# Altium schematic symbol library H3_REF_DDR3_16X2_V1_0_Library.SchLib: 148 symbols (part 2 of 2)
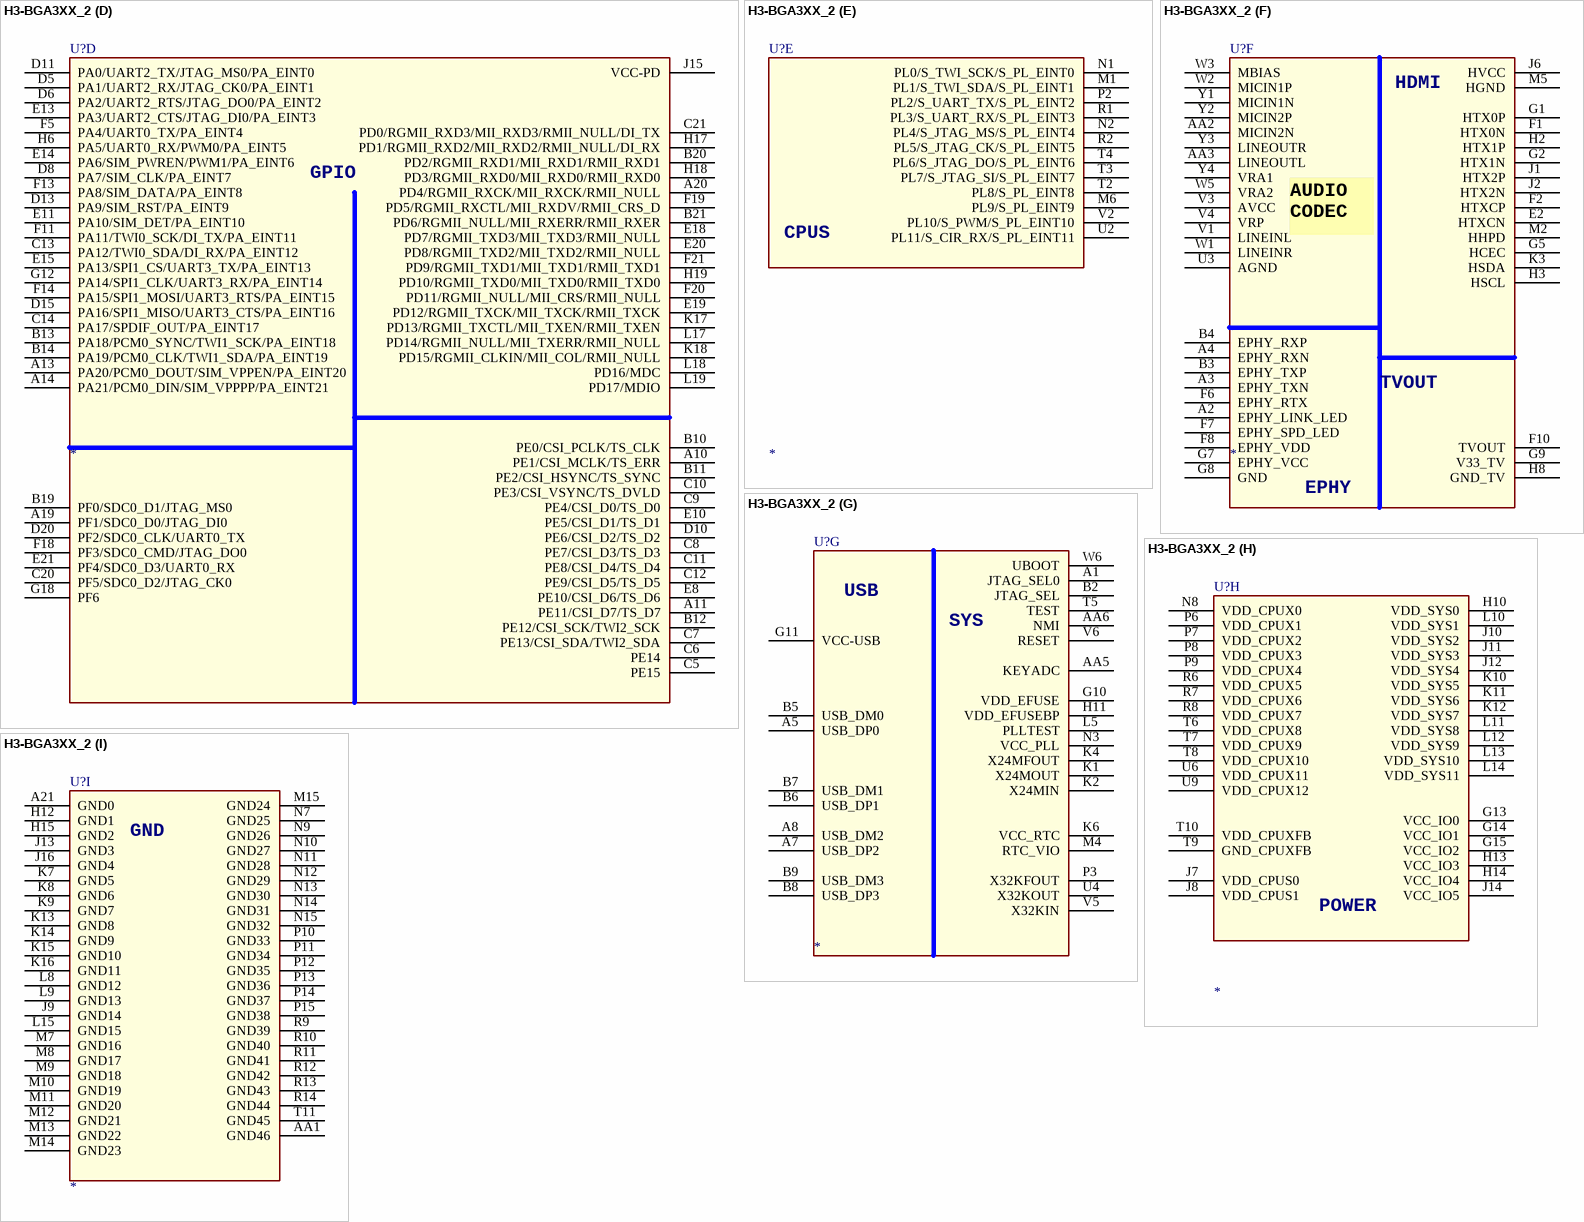
[diagram p24: symbol H3-BGA3XX_2]

## H3-BGA3XX_2
designator U?
footprint BGA347P0_65B14X14
part A pins: AA8 SDQ29, AA9 SDQS3, AA11 SDQ25, AA12 SDQM3, AA14 SDQ21, AA15 SDQS2, AA17 SDQ17, AA18 SDQM2, AA19 SCK, AA20 SCKB, AA21 SCKE0, G20 SDQM1, H20 SDQ9, H21 SDQ10, J19 SDQ8, J20 SDQSB1, J21 SDQ11, K20 SDQS1, L16 VCC_DRAM0, L20 SDQ12, L21 SDQ13, M16 VCC_DRAM1, M19 SDQ15, M20 SDQM0, M21 SDQ14, N16 VCC_DRAM2, N17 SA14, N19 SA11, N20 SDQ0, P16 VCC_DRAM3, P17 VCC_DRAM4, P19 SA10, P20 SDQ2, P21 SDQ1, R16 VCC_DRAM5, R17 SA15, R18 SA12, R19 SDQ4, R20 SDQS0, R21 SDQSB0, T12 VCC_DRAM6, T13 VCC_DRAM7, T14 VCC_DRAM8, T15 VCC_DRAM9, T16 SVREF, T17 SA0, T18 SBA1, T20 SDQ5, U11 VCC_DRAM10, U15 SCAS, U16 SRST, U18 SA1, U19 SDQ6, U20 SDQ7, U21 SDQ3, V10 SZQ, V11 SODT1, V12 SA13, V13 SRAS, V15 SA7, V17 SBA2, V19 SA2, V20 SA3, V21 SA4, W9 SDQ28, W11 SODT0, W12 SDQ24, W13 SWE, W15 SDQ19, W17 SBA0, W18 SA8, W20 SCS0, W21 SCS1, Y7 SDQ31, Y8 SDQ30, Y9 SDQSB3, Y10 SDQ27, Y11 SDQ26, Y12 SDQ23, Y13 SDQ22, Y14 SDQ20, Y15 SDQSB2, Y16 SDQ18, Y17 SDQ16, Y18 SA9, Y19 SA5, Y20 SA6, Y21 SCKE1
part B pins: A16 PC7/NAND_RB1, A17 PC5/NAND_RE/SDC2_CLK, B15 PC3/NAND_CE1/SPI0_CS, B16 PC2/NAND_CLE/SPI0_CLK, B17 PC12/NAND_DQ4/SDC2_D4, B18 PC8/NAND_DQ0/SDC2_D0, C15 PC0/NAND_WE/SPI0_MOSI, C16 PC1/NAND_ALE/SPI0_MISO, C17 PC9/NAND_DQ1/SDC2_D1, C18 PC11/NAND_DQ3/SDC2_D3, C19 PC15/NAND_DQ7/SDC2_D7, D17 PC10/NAND_DQ2/SDC2_D2, D19 PC13/NAND_DQ5/SDC2_D5, E16 PC6/NAND_RB0/SDC2_CMD, F16 PC4/NAND_CE0, F17 PC14/NAND_DQ6/SDC2_D6, H16 PC16/NAND_DQS/SDC2_RST
part C pins: B1 PG13/PCM1_DIN/PG_EINT13, C1 PG5/SDC1_D3/PG_EINT5, C2 PG4/SDC1_D2/PG_EINT4, C3 PG8/UART1_RTS/PG_EINT8, D1 PG12/PCM1_DOUTPG_EINT12, D2 PG11/PCM1_CLK/PG_EINT11, D3 PG7/UART1_RX/PG_EINT7, E3 PG9/UART1_CTS/PG_EINT9, F3 PG3/SDC1_D1/PG_EINT3, G4 PG6/UART1_TX/PG_EINT6, H4 PG2/SDC1_D0/PG_EINT2, H7 VCC_PG, J3 PG0/SDC1_CLK/PG_EINT0, L2 PG1/SDC1_CMD/PG_EINT1, M3 PG10/PCM1_SYNC/PG_EINT10
part D pins: A10 PE1/CSI_MCLK/TS_ERR, A11 PE11/CSI_D7/TS_D7, A13 PA20/PCM0_DOUT/SIM_VPPEN/PA_EINT20, A14 PA21/PCM0_DIN/SIM_VPPPP/PA_EINT21, A19 PF1/SDC0_D0/JTAG_DI0, A20 PD4/RGMII_RXCK/MII_RXCK/RMII_NULL, B10 PE0/CSI_PCLK/TS_CLK, B11 PE2/CSI_HSYNC/TS_SYNC, B12 PE12/CSI_SCK/TWI2_SCK, B13 PA18/PCM0_SYNC/TWI1_SCK/PA_EINT18, B14 PA19/PCM0_CLK/TWI1_SDA/PA_EINT19, B19 PF0/SDC0_D1/JTAG_MS0, B20 PD2/RGMII_RXD1/MII_RXD1/RMII_RXD1, B21 PD6/RGMII_NULL/MII_RXERR/RMII_RXER, C5 PE15, C6 PE14, C7 PE13/CSI_SDA/TWI2_SDA, C8 PE7/CSI_D3/TS_D3, C9 PE4/CSI_D0/TS_D0, C10 PE3/CSI_VSYNC/TS_DVLD, C11 PE8/CSI_D4/TS_D4, C12 PE9/CSI_D5/TS_D5, C13 PA12/TWI0_SDA/DI_RX/PA_EINT12, C14 PA17/SPDIF_OUT/PA_EINT17, C20 PF5/SDC0_D2/JTAG_CK0, C21 PD0/RGMII_RXD3/MII_RXD3/RMII_NULL/DI_TX, D5 PA1/UART2_RX/JTAG_CK0/PA_EINT1, D6 PA2/UART2_RTS/JTAG_DO0/PA_EINT2, D8 PA7/SIM_CLK/PA_EINT7, D10 PE6/CSI_D2/TS_D2, D11 PA0/UART2_TX/JTAG_MS0/PA_EINT0, D13 PA9/SIM_RST/PA_EINT9, D15 PA16/SPI1_MISO/UART3_CTS/PA_EINT16, D20 PF2/SDC0_CLK/UART0_TX, E8 PE10/CSI_D6/TS_D6, E10 PE5/CSI_D1/TS_D1, E11 PA10/SIM_DET/PA_EINT10, E13 PA3/UART2_CTS/JTAG_DI0/PA_EINT3, E14 PA6/SIM_PWREN/PWM1/PA_EINT6, E15 PA13/SPI1_CS/UART3_TX/PA_EINT13, E18 PD7/RGMII_TXD3/MII_TXD3/RMII_NULL, E19 PD12/RGMII_TXCK/MII_TXCK/RMII_TXCK, E20 PD8/RGMII_TXD2/MII_TXD2/RMII_NULL, E21 PF4/SDC0_D3/UART0_RX, F5 PA4/UART0_TX/PA_EINT4, F11 PA11/TWI0_SCK/DI_TX/PA_EINT11, F13 PA8/SIM_DATA/PA_EINT8, F14 PA15/SPI1_MOSI/UART3_RTS/PA_EINT15, F18 PF3/SDC0_CMD/JTAG_DO0, F19 PD5/RGMII_RXCTL/MII_RXDV/RMII_CRS_D, F20 PD11/RGMII_NULL/MII_CRS/RMII_NULL, F21 PD9/RGMII_TXD1/MII_TXD1/RMII_TXD1, G12 PA14/SPI1_CLK/UART3_RX/PA_EINT14, G18 PF6, H6 PA5/UART0_RX/PWM0/PA_EINT5, H17 PD1/RGMII_RXD2/MII_RXD2/RMII_NULL/DI_RX, H18 PD3/RGMII_RXD0/MII_RXD0/RMII_RXD0, H19 PD10/RGMII_TXD0/MII_TXD0/RMII_TXD0, J15 VCC-PD, K17 PD13/RGMII_TXCTL/MII_TXEN/RMII_TXEN, K18 PD15/RGMII_CLKIN/MII_COL/RMII_NULL, L17 PD14/RGMII_NULL/MII_TXERR/RMII_NULL, L18 PD16/MDC, L19 PD17/MDIO
part E pins: M1 PL1/S_TWI_SDA/S_PL_EINT1, M6 PL9/S_PL_EINT9, N1 PL0/S_TWI_SCK/S_PL_EINT0, N2 PL4/S_JTAG_MS/S_PL_EINT4, P2 PL2/S_UART_TX/S_PL_EINT2, R1 PL3/S_UART_RX/S_PL_EINT3, R2 PL5/S_JTAG_CK/S_PL_EINT5, T2 PL8/S_PL_EINT8, T3 PL7/S_JTAG_SI/S_PL_EINT7, T4 PL6/S_JTAG_DO/S_PL_EINT6, U2 PL11/S_CIR_RX/S_PL_EINT11, V2 PL10/S_PWM/S_PL_EINT10
part F pins: A2 EPHY_LINK_LED, A3 EPHY_TXN, A4 EPHY_RXN, AA2 MICIN2N, AA3 LINEOUTL, B3 EPHY_TXP, B4 EPHY_RXP, E2 HTXCN, F1 HTX0N, F2 HTXCP, F6 EPHY_RTX, F7 EPHY_SPD_LED, F8 EPHY_VDD, F10 TVOUT, G1 HTX0P, G2 HTX1N, G5 HCEC, G7 EPHY_VCC, G8 GND, G9 V33_TV, H2 HTX1P, H3 HSCL, H8 GND_TV, J1 HTX2P, J2 HTX2N, J6 HVCC, K3 HSDA, M2 HHPD, M5 HGND, U3 AGND, V1 LINEINL, V3 AVCC, V4 VRP, W1 LINEINR, W2 MICIN1P, W3 MBIAS, W5 VRA2, Y1 MICIN1N, Y2 MICIN2P, Y3 LINEOUTR, Y4 VRA1
part G pins: A1 JTAG_SEL0, A5 USB_DP0, A7 USB_DP2, A8 USB_DM2, AA5 KEYADC, AA6 NMI, B2 JTAG_SEL, B5 USB_DM0, B6 USB_DP1, B7 USB_DM1, B8 USB_DP3, B9 USB_DM3, G10 VDD_EFUSE, G11 VCC-USB, H11 VDD_EFUSEBP, K1 X24MOUT, K2 X24MIN, K4 X24MFOUT, K6 VCC_RTC, L5 PLLTEST, M4 RTC_VIO, N3 VCC_PLL, P3 X32KFOUT, T5 TEST, U4 X32KOUT, V5 X32KIN, V6 RESET, W6 UBOOT
part H pins: G13 VCC_IO0, G14 VCC_IO1, G15 VCC_IO2, H10 VDD_SYS0, H13 VCC_IO3, H14 VCC_IO4, J7 VDD_CPUS0, J8 VDD_CPUS1, J10 VDD_SYS2, J11 VDD_SYS3, J12 VDD_SYS4, J14 VCC_IO5, K10 VDD_SYS5, K11 VDD_SYS6, K12 VDD_SYS7, L10 VDD_SYS1, L11 VDD_SYS8, L12 VDD_SYS9, L13 VDD_SYS10, L14 VDD_SYS11, N8 VDD_CPUX0, P6 VDD_CPUX1, P7 VDD_CPUX2, P8 VDD_CPUX3, P9 VDD_CPUX4, R6 VDD_CPUX5, R7 VDD_CPUX6, R8 VDD_CPUX7, T6 VDD_CPUX8, T7 VDD_CPUX9, T8 VDD_CPUX10, T9 GND_CPUXFB, T10 VDD_CPUXFB, U6 VDD_CPUX11, U9 VDD_CPUX12
part I pins: A21 GND0, AA1 GND46, H12 GND1, H15 GND2, J9 GND14, J13 GND3, J16 GND4, K7 GND5, K8 GND6, K9 GND7, K13 GND8, K14 GND9, K15 GND10, K16 GND11, L8 GND12, L9 GND13, L15 GND15, M7 GND16, M8 GND17, M9 GND18, M10 GND19, M11 GND20, M12 GND21, M13 GND22, M14 GND23, M15 GND24, N7 GND25, N9 GND26, N10 GND27, N11 GND28, N12 GND29, N13 GND30, N14 GND31, N15 GND32, P10 GND33, P11 GND34, P12 GND35, P13 GND36, P14 GND37, P15 GND38, R9 GND39, R10 GND40, R11 GND41, R12 GND42, R13 GND43, R14 GND44, T11 GND45
part A text: DRAM
part B text: NAND
part C text: SDC1
part D text: GPIO
part E text: CPUS
part F text: HDMI; AUDIO / CODEC; EPHY
part G text: USB; SYS
part H text: POWER

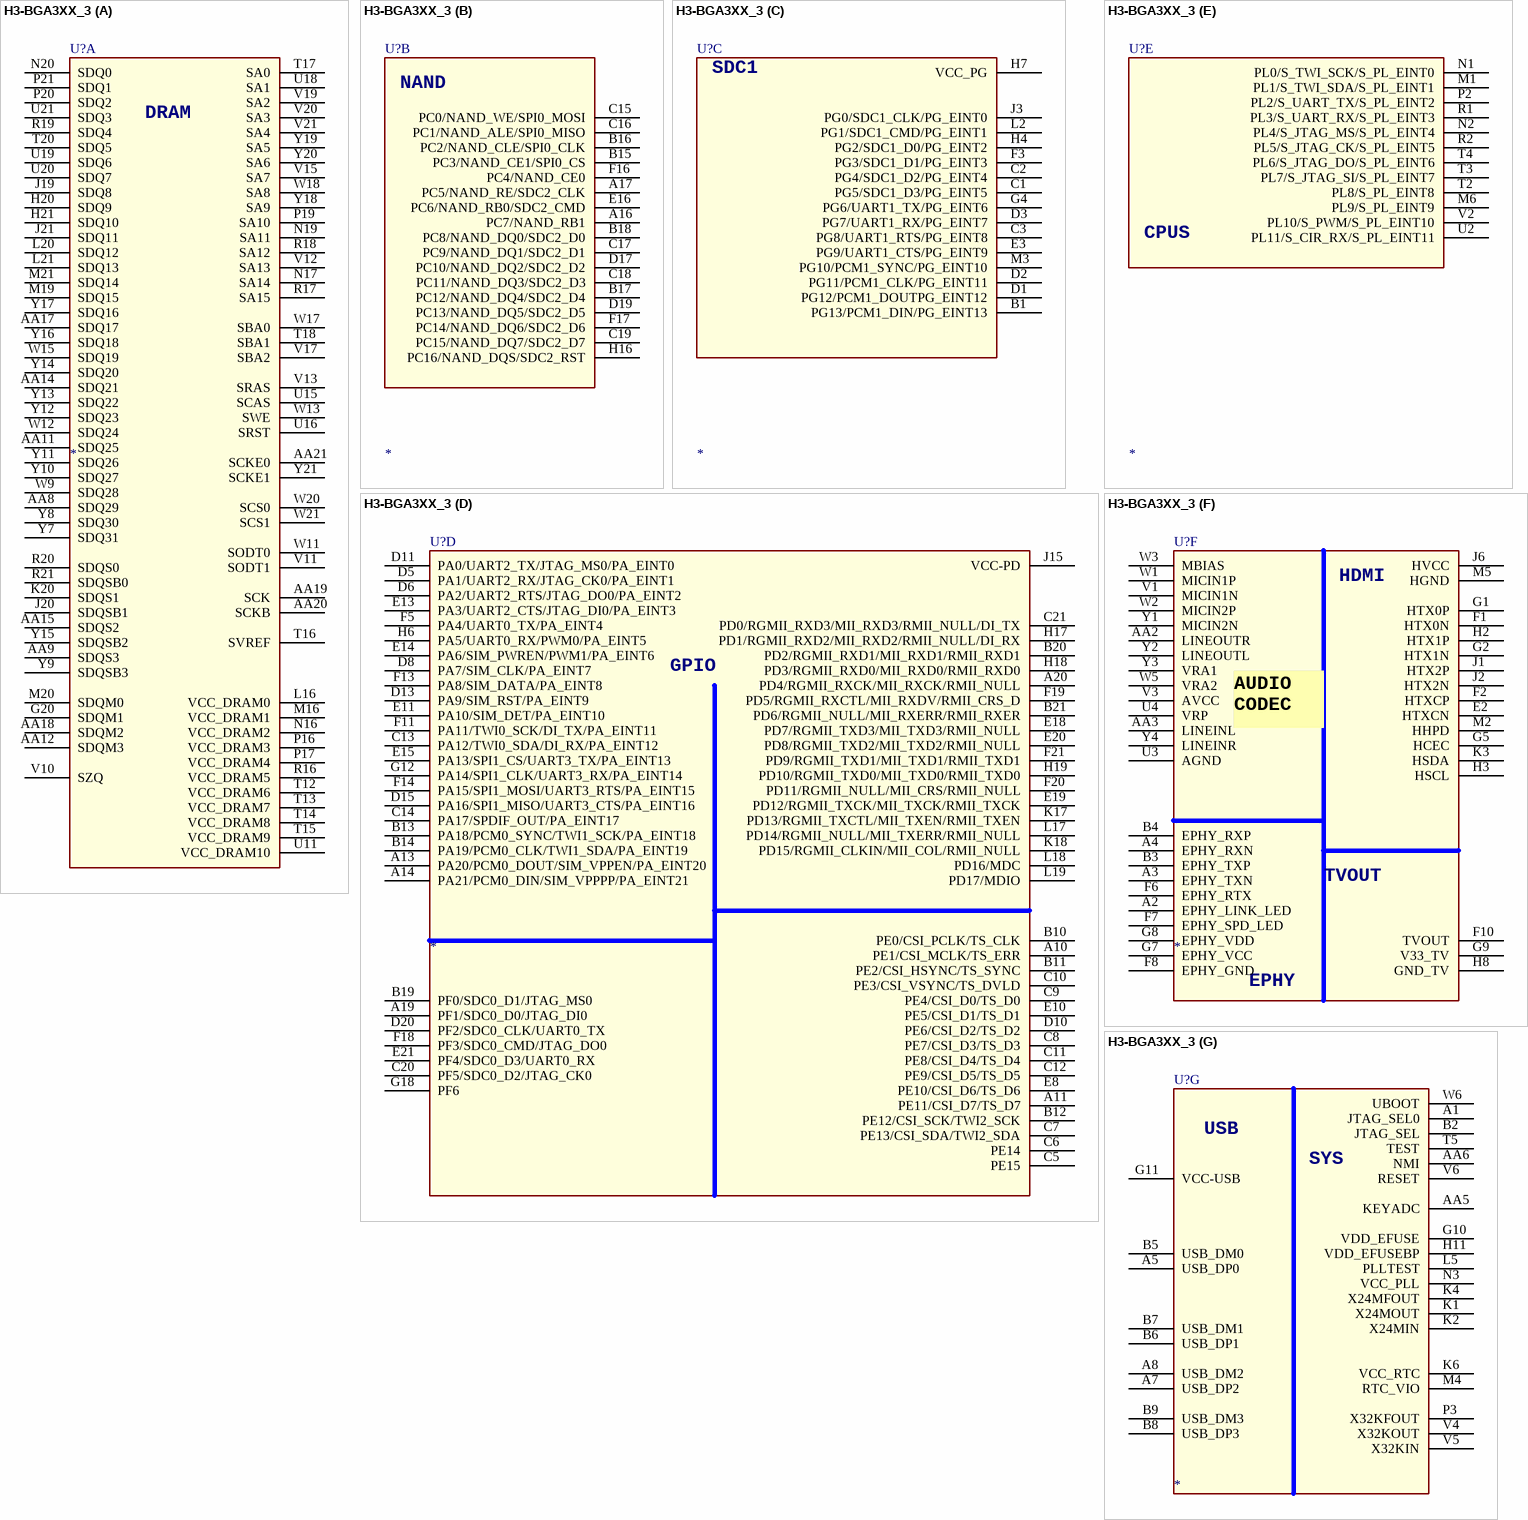
[diagram p16: symbol H3-BGA3XX_3]

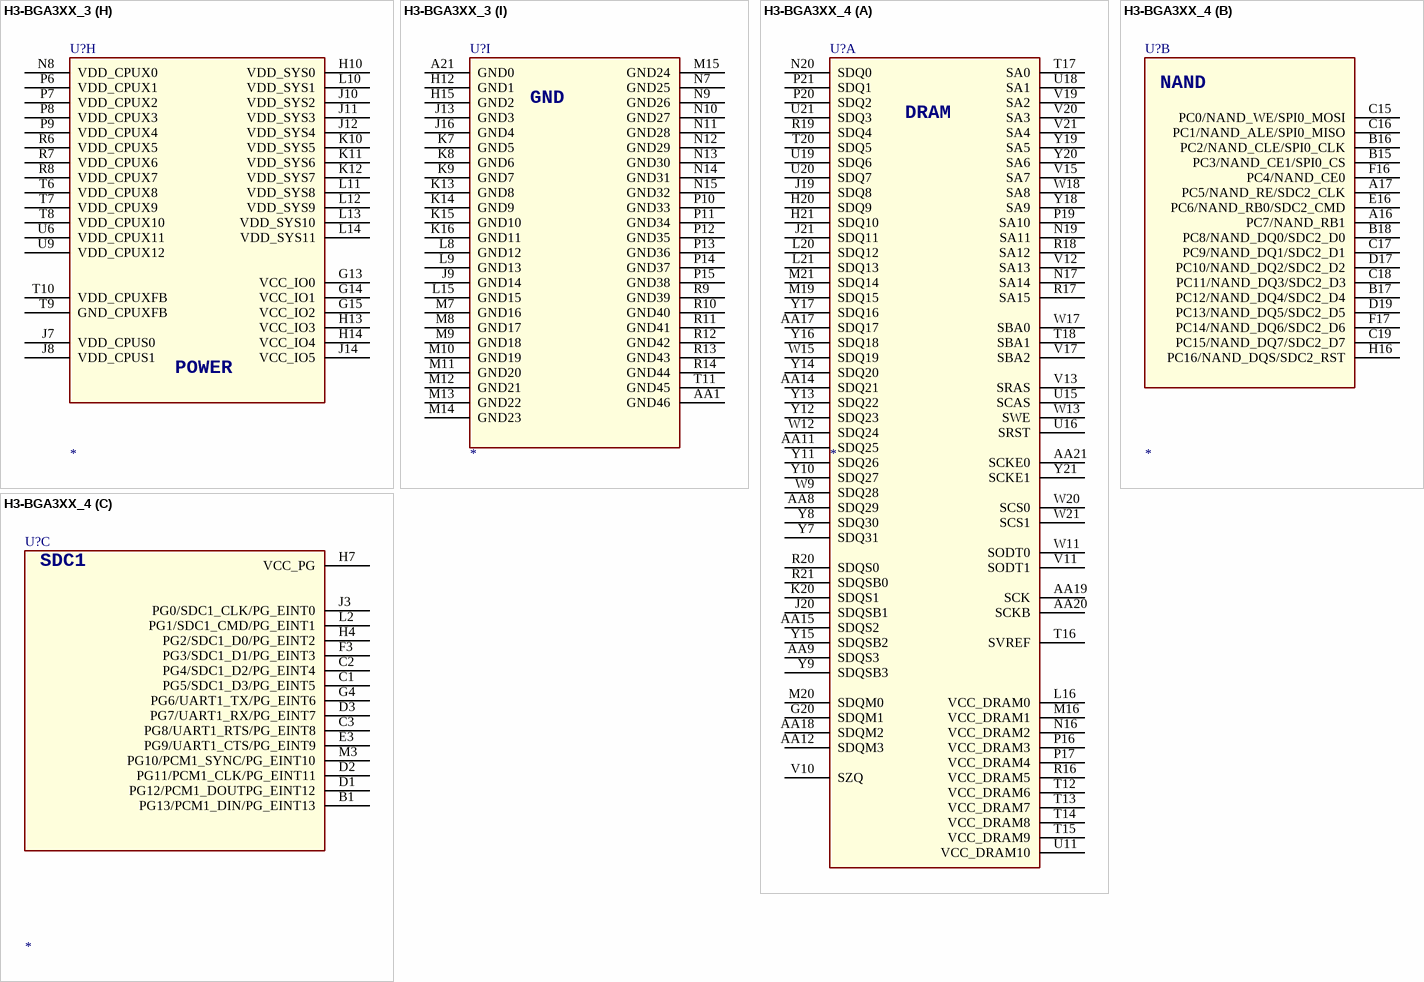
[diagram p17: symbols H3-BGA3XX_3 to H3-BGA3XX_4]

## H3-BGA3XX_3
designator U?
footprint BGA347P0_65B14X14
part A pins: AA8 SDQ29, AA9 SDQS3, AA11 SDQ25, AA12 SDQM3, AA14 SDQ21, AA15 SDQS2, AA17 SDQ17, AA18 SDQM2, AA19 SCK, AA20 SCKB, AA21 SCKE0, G20 SDQM1, H20 SDQ9, H21 SDQ10, J19 SDQ8, J20 SDQSB1, J21 SDQ11, K20 SDQS1, L16 VCC_DRAM0, L20 SDQ12, L21 SDQ13, M16 VCC_DRAM1, M19 SDQ15, M20 SDQM0, M21 SDQ14, N16 VCC_DRAM2, N17 SA14, N19 SA11, N20 SDQ0, P16 VCC_DRAM3, P17 VCC_DRAM4, P19 SA10, P20 SDQ2, P21 SDQ1, R16 VCC_DRAM5, R17 SA15, R18 SA12, R19 SDQ4, R20 SDQS0, R21 SDQSB0, T12 VCC_DRAM6, T13 VCC_DRAM7, T14 VCC_DRAM8, T15 VCC_DRAM9, T16 SVREF, T17 SA0, T18 SBA1, T20 SDQ5, U11 VCC_DRAM10, U15 SCAS, U16 SRST, U18 SA1, U19 SDQ6, U20 SDQ7, U21 SDQ3, V10 SZQ, V11 SODT1, V12 SA13, V13 SRAS, V15 SA7, V17 SBA2, V19 SA2, V20 SA3, V21 SA4, W9 SDQ28, W11 SODT0, W12 SDQ24, W13 SWE, W15 SDQ19, W17 SBA0, W18 SA8, W20 SCS0, W21 SCS1, Y7 SDQ31, Y8 SDQ30, Y9 SDQSB3, Y10 SDQ27, Y11 SDQ26, Y12 SDQ23, Y13 SDQ22, Y14 SDQ20, Y15 SDQSB2, Y16 SDQ18, Y17 SDQ16, Y18 SA9, Y19 SA5, Y20 SA6, Y21 SCKE1
part B pins: A16 PC7/NAND_RB1, A17 PC5/NAND_RE/SDC2_CLK, B15 PC3/NAND_CE1/SPI0_CS, B16 PC2/NAND_CLE/SPI0_CLK, B17 PC12/NAND_DQ4/SDC2_D4, B18 PC8/NAND_DQ0/SDC2_D0, C15 PC0/NAND_WE/SPI0_MOSI, C16 PC1/NAND_ALE/SPI0_MISO, C17 PC9/NAND_DQ1/SDC2_D1, C18 PC11/NAND_DQ3/SDC2_D3, C19 PC15/NAND_DQ7/SDC2_D7, D17 PC10/NAND_DQ2/SDC2_D2, D19 PC13/NAND_DQ5/SDC2_D5, E16 PC6/NAND_RB0/SDC2_CMD, F16 PC4/NAND_CE0, F17 PC14/NAND_DQ6/SDC2_D6, H16 PC16/NAND_DQS/SDC2_RST
part C pins: B1 PG13/PCM1_DIN/PG_EINT13, C1 PG5/SDC1_D3/PG_EINT5, C2 PG4/SDC1_D2/PG_EINT4, C3 PG8/UART1_RTS/PG_EINT8, D1 PG12/PCM1_DOUTPG_EINT12, D2 PG11/PCM1_CLK/PG_EINT11, D3 PG7/UART1_RX/PG_EINT7, E3 PG9/UART1_CTS/PG_EINT9, F3 PG3/SDC1_D1/PG_EINT3, G4 PG6/UART1_TX/PG_EINT6, H4 PG2/SDC1_D0/PG_EINT2, H7 VCC_PG, J3 PG0/SDC1_CLK/PG_EINT0, L2 PG1/SDC1_CMD/PG_EINT1, M3 PG10/PCM1_SYNC/PG_EINT10
part D pins: A10 PE1/CSI_MCLK/TS_ERR, A11 PE11/CSI_D7/TS_D7, A13 PA20/PCM0_DOUT/SIM_VPPEN/PA_EINT20, A14 PA21/PCM0_DIN/SIM_VPPPP/PA_EINT21, A19 PF1/SDC0_D0/JTAG_DI0, A20 PD4/RGMII_RXCK/MII_RXCK/RMII_NULL, B10 PE0/CSI_PCLK/TS_CLK, B11 PE2/CSI_HSYNC/TS_SYNC, B12 PE12/CSI_SCK/TWI2_SCK, B13 PA18/PCM0_SYNC/TWI1_SCK/PA_EINT18, B14 PA19/PCM0_CLK/TWI1_SDA/PA_EINT19, B19 PF0/SDC0_D1/JTAG_MS0, B20 PD2/RGMII_RXD1/MII_RXD1/RMII_RXD1, B21 PD6/RGMII_NULL/MII_RXERR/RMII_RXER, C5 PE15, C6 PE14, C7 PE13/CSI_SDA/TWI2_SDA, C8 PE7/CSI_D3/TS_D3, C9 PE4/CSI_D0/TS_D0, C10 PE3/CSI_VSYNC/TS_DVLD, C11 PE8/CSI_D4/TS_D4, C12 PE9/CSI_D5/TS_D5, C13 PA12/TWI0_SDA/DI_RX/PA_EINT12, C14 PA17/SPDIF_OUT/PA_EINT17, C20 PF5/SDC0_D2/JTAG_CK0, C21 PD0/RGMII_RXD3/MII_RXD3/RMII_NULL/DI_TX, D5 PA1/UART2_RX/JTAG_CK0/PA_EINT1, D6 PA2/UART2_RTS/JTAG_DO0/PA_EINT2, D8 PA7/SIM_CLK/PA_EINT7, D10 PE6/CSI_D2/TS_D2, D11 PA0/UART2_TX/JTAG_MS0/PA_EINT0, D13 PA9/SIM_RST/PA_EINT9, D15 PA16/SPI1_MISO/UART3_CTS/PA_EINT16, D20 PF2/SDC0_CLK/UART0_TX, E8 PE10/CSI_D6/TS_D6, E10 PE5/CSI_D1/TS_D1, E11 PA10/SIM_DET/PA_EINT10, E13 PA3/UART2_CTS/JTAG_DI0/PA_EINT3, E14 PA6/SIM_PWREN/PWM1/PA_EINT6, E15 PA13/SPI1_CS/UART3_TX/PA_EINT13, E18 PD7/RGMII_TXD3/MII_TXD3/RMII_NULL, E19 PD12/RGMII_TXCK/MII_TXCK/RMII_TXCK, E20 PD8/RGMII_TXD2/MII_TXD2/RMII_NULL, E21 PF4/SDC0_D3/UART0_RX, F5 PA4/UART0_TX/PA_EINT4, F11 PA11/TWI0_SCK/DI_TX/PA_EINT11, F13 PA8/SIM_DATA/PA_EINT8, F14 PA15/SPI1_MOSI/UART3_RTS/PA_EINT15, F18 PF3/SDC0_CMD/JTAG_DO0, F19 PD5/RGMII_RXCTL/MII_RXDV/RMII_CRS_D, F20 PD11/RGMII_NULL/MII_CRS/RMII_NULL, F21 PD9/RGMII_TXD1/MII_TXD1/RMII_TXD1, G12 PA14/SPI1_CLK/UART3_RX/PA_EINT14, G18 PF6, H6 PA5/UART0_RX/PWM0/PA_EINT5, H17 PD1/RGMII_RXD2/MII_RXD2/RMII_NULL/DI_RX, H18 PD3/RGMII_RXD0/MII_RXD0/RMII_RXD0, H19 PD10/RGMII_TXD0/MII_TXD0/RMII_TXD0, J15 VCC-PD, K17 PD13/RGMII_TXCTL/MII_TXEN/RMII_TXEN, K18 PD15/RGMII_CLKIN/MII_COL/RMII_NULL, L17 PD14/RGMII_NULL/MII_TXERR/RMII_NULL, L18 PD16/MDC, L19 PD17/MDIO
part E pins: M1 PL1/S_TWI_SDA/S_PL_EINT1, M6 PL9/S_PL_EINT9, N1 PL0/S_TWI_SCK/S_PL_EINT0, N2 PL4/S_JTAG_MS/S_PL_EINT4, P2 PL2/S_UART_TX/S_PL_EINT2, R1 PL3/S_UART_RX/S_PL_EINT3, R2 PL5/S_JTAG_CK/S_PL_EINT5, T2 PL8/S_PL_EINT8, T3 PL7/S_JTAG_SI/S_PL_EINT7, T4 PL6/S_JTAG_DO/S_PL_EINT6, U2 PL11/S_CIR_RX/S_PL_EINT11, V2 PL10/S_PWM/S_PL_EINT10
part F pins: A2 EPHY_LINK_LED, A3 EPHY_TXN, A4 EPHY_RXN, AA2 LINEOUTR, AA3 LINEINL, B3 EPHY_TXP, B4 EPHY_RXP, E2 HTXCN, F1 HTX0N, F2 HTXCP, F6 EPHY_RTX, F7 EPHY_SPD_LED, F8 EPHY_GND, F10 TVOUT, G1 HTX0P, G2 HTX1N, G5 HCEC, G7 EPHY_VCC, G8 EPHY_VDD, G9 V33_TV, H2 HTX1P, H3 HSCL, H8 GND_TV, J1 HTX2P, J2 HTX2N, J6 HVCC, K3 HSDA, M2 HHPD, M5 HGND, U3 AGND, U4 VRP, V1 MICIN1N, V3 AVCC, W1 MICIN1P, W2 MICIN2P, W3 MBIAS, W5 VRA2, Y1 MICIN2N, Y2 LINEOUTL, Y3 VRA1, Y4 LINEINR
part G pins: A1 JTAG_SEL0, A5 USB_DP0, A7 USB_DP2, A8 USB_DM2, AA5 KEYADC, AA6 NMI, B2 JTAG_SEL, B5 USB_DM0, B6 USB_DP1, B7 USB_DM1, B8 USB_DP3, B9 USB_DM3, G10 VDD_EFUSE, G11 VCC-USB, H11 VDD_EFUSEBP, K1 X24MOUT, K2 X24MIN, K4 X24MFOUT, K6 VCC_RTC, L5 PLLTEST, M4 RTC_VIO, N3 VCC_PLL, P3 X32KFOUT, T5 TEST, V4 X32KOUT, V5 X32KIN, V6 RESET, W6 UBOOT
part H pins: G13 VCC_IO0, G14 VCC_IO1, G15 VCC_IO2, H10 VDD_SYS0, H13 VCC_IO3, H14 VCC_IO4, J7 VDD_CPUS0, J8 VDD_CPUS1, J10 VDD_SYS2, J11 VDD_SYS3, J12 VDD_SYS4, J14 VCC_IO5, K10 VDD_SYS5, K11 VDD_SYS6, K12 VDD_SYS7, L10 VDD_SYS1, L11 VDD_SYS8, L12 VDD_SYS9, L13 VDD_SYS10, L14 VDD_SYS11, N8 VDD_CPUX0, P6 VDD_CPUX1, P7 VDD_CPUX2, P8 VDD_CPUX3, P9 VDD_CPUX4, R6 VDD_CPUX5, R7 VDD_CPUX6, R8 VDD_CPUX7, T6 VDD_CPUX8, T7 VDD_CPUX9, T8 VDD_CPUX10, T9 GND_CPUXFB, T10 VDD_CPUXFB, U6 VDD_CPUX11, U9 VDD_CPUX12
part I pins: A21 GND0, AA1 GND46, H12 GND1, H15 GND2, J9 GND14, J13 GND3, J16 GND4, K7 GND5, K8 GND6, K9 GND7, K13 GND8, K14 GND9, K15 GND10, K16 GND11, L8 GND12, L9 GND13, L15 GND15, M7 GND16, M8 GND17, M9 GND18, M10 GND19, M11 GND20, M12 GND21, M13 GND22, M14 GND23, M15 GND24, N7 GND25, N9 GND26, N10 GND27, N11 GND28, N12 GND29, N13 GND30, N14 GND31, N15 GND32, P10 GND33, P11 GND34, P12 GND35, P13 GND36, P14 GND37, P15 GND38, R9 GND39, R10 GND40, R11 GND41, R12 GND42, R13 GND43, R14 GND44, T11 GND45
part A text: DRAM
part B text: NAND
part C text: SDC1
part D text: GPIO
part E text: CPUS
part F text: HDMI; AUDIO / CODEC; EPHY
part G text: USB; SYS
part H text: POWER
part I text: GND

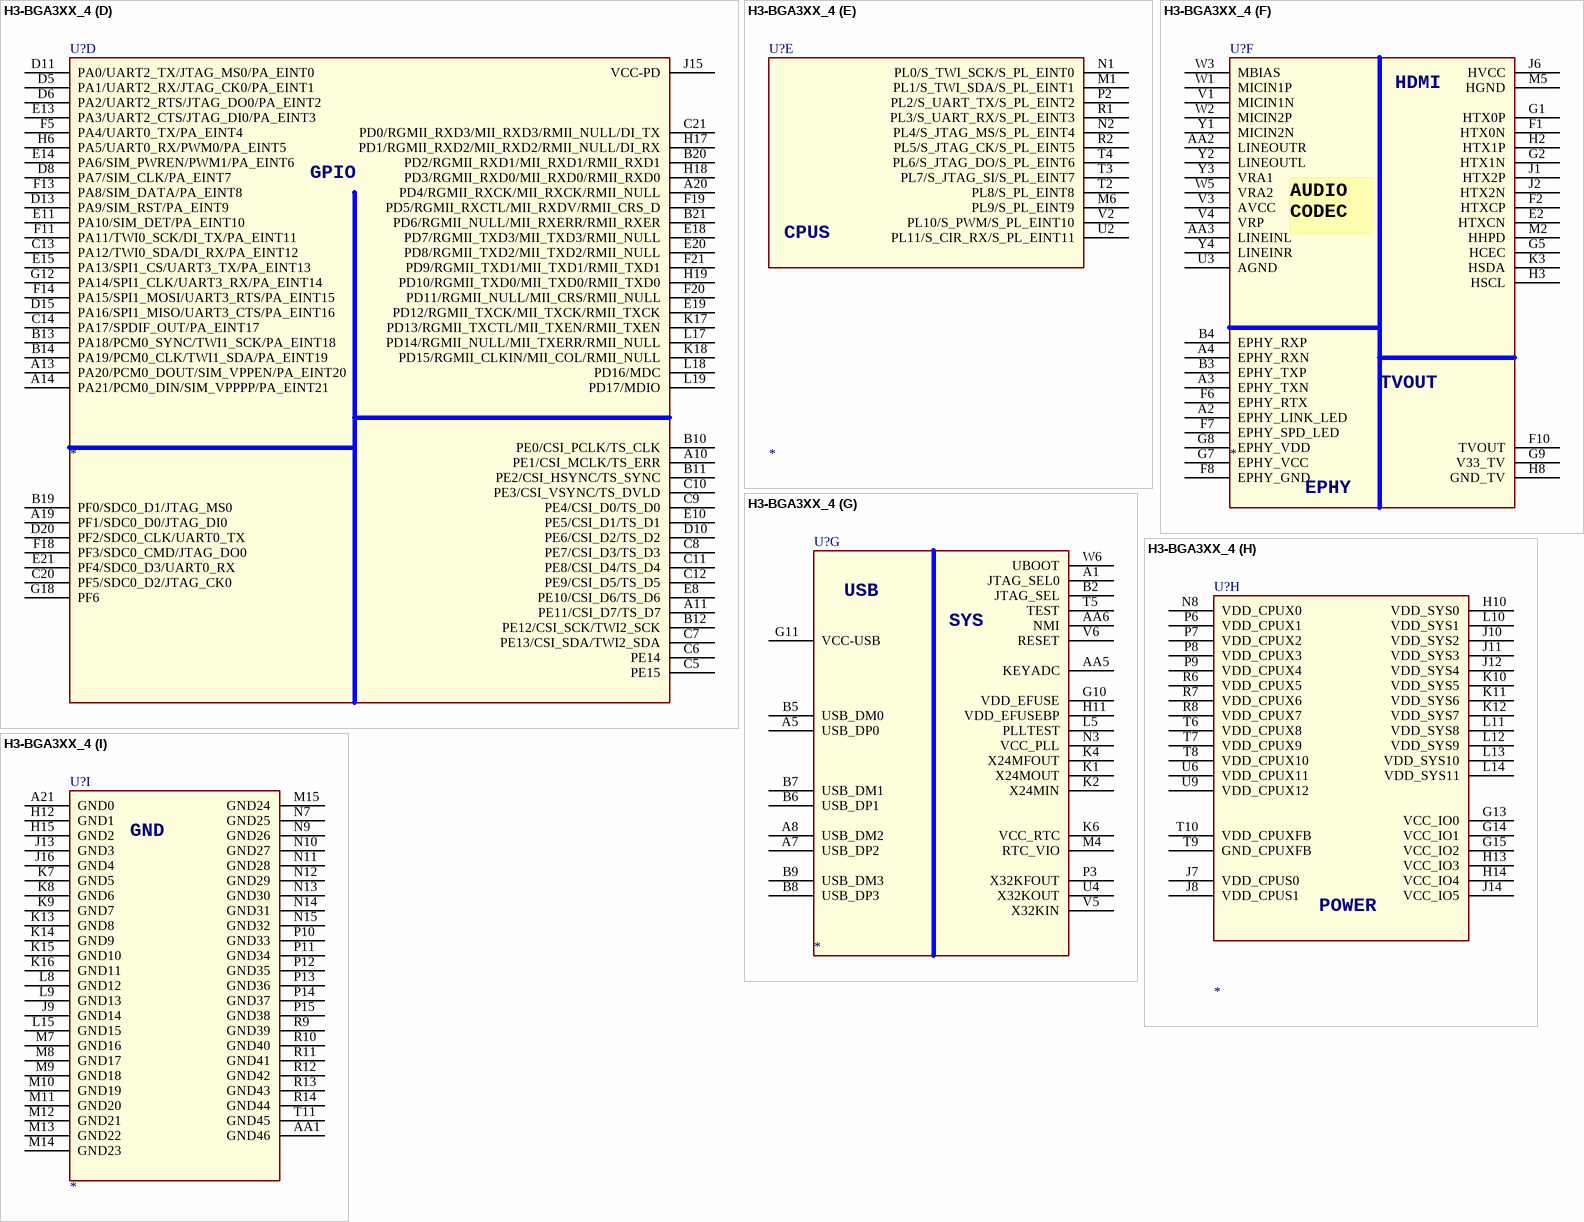
[diagram p18: symbol H3-BGA3XX_4]

## H3-BGA3XX_4
designator U?
footprint BGA347P0_65B14X14
part A pins: AA8 SDQ29, AA9 SDQS3, AA11 SDQ25, AA12 SDQM3, AA14 SDQ21, AA15 SDQS2, AA17 SDQ17, AA18 SDQM2, AA19 SCK, AA20 SCKB, AA21 SCKE0, G20 SDQM1, H20 SDQ9, H21 SDQ10, J19 SDQ8, J20 SDQSB1, J21 SDQ11, K20 SDQS1, L16 VCC_DRAM0, L20 SDQ12, L21 SDQ13, M16 VCC_DRAM1, M19 SDQ15, M20 SDQM0, M21 SDQ14, N16 VCC_DRAM2, N17 SA14, N19 SA11, N20 SDQ0, P16 VCC_DRAM3, P17 VCC_DRAM4, P19 SA10, P20 SDQ2, P21 SDQ1, R16 VCC_DRAM5, R17 SA15, R18 SA12, R19 SDQ4, R20 SDQS0, R21 SDQSB0, T12 VCC_DRAM6, T13 VCC_DRAM7, T14 VCC_DRAM8, T15 VCC_DRAM9, T16 SVREF, T17 SA0, T18 SBA1, T20 SDQ5, U11 VCC_DRAM10, U15 SCAS, U16 SRST, U18 SA1, U19 SDQ6, U20 SDQ7, U21 SDQ3, V10 SZQ, V11 SODT1, V12 SA13, V13 SRAS, V15 SA7, V17 SBA2, V19 SA2, V20 SA3, V21 SA4, W9 SDQ28, W11 SODT0, W12 SDQ24, W13 SWE, W15 SDQ19, W17 SBA0, W18 SA8, W20 SCS0, W21 SCS1, Y7 SDQ31, Y8 SDQ30, Y9 SDQSB3, Y10 SDQ27, Y11 SDQ26, Y12 SDQ23, Y13 SDQ22, Y14 SDQ20, Y15 SDQSB2, Y16 SDQ18, Y17 SDQ16, Y18 SA9, Y19 SA5, Y20 SA6, Y21 SCKE1
part B pins: A16 PC7/NAND_RB1, A17 PC5/NAND_RE/SDC2_CLK, B15 PC3/NAND_CE1/SPI0_CS, B16 PC2/NAND_CLE/SPI0_CLK, B17 PC12/NAND_DQ4/SDC2_D4, B18 PC8/NAND_DQ0/SDC2_D0, C15 PC0/NAND_WE/SPI0_MOSI, C16 PC1/NAND_ALE/SPI0_MISO, C17 PC9/NAND_DQ1/SDC2_D1, C18 PC11/NAND_DQ3/SDC2_D3, C19 PC15/NAND_DQ7/SDC2_D7, D17 PC10/NAND_DQ2/SDC2_D2, D19 PC13/NAND_DQ5/SDC2_D5, E16 PC6/NAND_RB0/SDC2_CMD, F16 PC4/NAND_CE0, F17 PC14/NAND_DQ6/SDC2_D6, H16 PC16/NAND_DQS/SDC2_RST
part C pins: B1 PG13/PCM1_DIN/PG_EINT13, C1 PG5/SDC1_D3/PG_EINT5, C2 PG4/SDC1_D2/PG_EINT4, C3 PG8/UART1_RTS/PG_EINT8, D1 PG12/PCM1_DOUTPG_EINT12, D2 PG11/PCM1_CLK/PG_EINT11, D3 PG7/UART1_RX/PG_EINT7, E3 PG9/UART1_CTS/PG_EINT9, F3 PG3/SDC1_D1/PG_EINT3, G4 PG6/UART1_TX/PG_EINT6, H4 PG2/SDC1_D0/PG_EINT2, H7 VCC_PG, J3 PG0/SDC1_CLK/PG_EINT0, L2 PG1/SDC1_CMD/PG_EINT1, M3 PG10/PCM1_SYNC/PG_EINT10
part D pins: A10 PE1/CSI_MCLK/TS_ERR, A11 PE11/CSI_D7/TS_D7, A13 PA20/PCM0_DOUT/SIM_VPPEN/PA_EINT20, A14 PA21/PCM0_DIN/SIM_VPPPP/PA_EINT21, A19 PF1/SDC0_D0/JTAG_DI0, A20 PD4/RGMII_RXCK/MII_RXCK/RMII_NULL, B10 PE0/CSI_PCLK/TS_CLK, B11 PE2/CSI_HSYNC/TS_SYNC, B12 PE12/CSI_SCK/TWI2_SCK, B13 PA18/PCM0_SYNC/TWI1_SCK/PA_EINT18, B14 PA19/PCM0_CLK/TWI1_SDA/PA_EINT19, B19 PF0/SDC0_D1/JTAG_MS0, B20 PD2/RGMII_RXD1/MII_RXD1/RMII_RXD1, B21 PD6/RGMII_NULL/MII_RXERR/RMII_RXER, C5 PE15, C6 PE14, C7 PE13/CSI_SDA/TWI2_SDA, C8 PE7/CSI_D3/TS_D3, C9 PE4/CSI_D0/TS_D0, C10 PE3/CSI_VSYNC/TS_DVLD, C11 PE8/CSI_D4/TS_D4, C12 PE9/CSI_D5/TS_D5, C13 PA12/TWI0_SDA/DI_RX/PA_EINT12, C14 PA17/SPDIF_OUT/PA_EINT17, C20 PF5/SDC0_D2/JTAG_CK0, C21 PD0/RGMII_RXD3/MII_RXD3/RMII_NULL/DI_TX, D5 PA1/UART2_RX/JTAG_CK0/PA_EINT1, D6 PA2/UART2_RTS/JTAG_DO0/PA_EINT2, D8 PA7/SIM_CLK/PA_EINT7, D10 PE6/CSI_D2/TS_D2, D11 PA0/UART2_TX/JTAG_MS0/PA_EINT0, D13 PA9/SIM_RST/PA_EINT9, D15 PA16/SPI1_MISO/UART3_CTS/PA_EINT16, D20 PF2/SDC0_CLK/UART0_TX, E8 PE10/CSI_D6/TS_D6, E10 PE5/CSI_D1/TS_D1, E11 PA10/SIM_DET/PA_EINT10, E13 PA3/UART2_CTS/JTAG_DI0/PA_EINT3, E14 PA6/SIM_PWREN/PWM1/PA_EINT6, E15 PA13/SPI1_CS/UART3_TX/PA_EINT13, E18 PD7/RGMII_TXD3/MII_TXD3/RMII_NULL, E19 PD12/RGMII_TXCK/MII_TXCK/RMII_TXCK, E20 PD8/RGMII_TXD2/MII_TXD2/RMII_NULL, E21 PF4/SDC0_D3/UART0_RX, F5 PA4/UART0_TX/PA_EINT4, F11 PA11/TWI0_SCK/DI_TX/PA_EINT11, F13 PA8/SIM_DATA/PA_EINT8, F14 PA15/SPI1_MOSI/UART3_RTS/PA_EINT15, F18 PF3/SDC0_CMD/JTAG_DO0, F19 PD5/RGMII_RXCTL/MII_RXDV/RMII_CRS_D, F20 PD11/RGMII_NULL/MII_CRS/RMII_NULL, F21 PD9/RGMII_TXD1/MII_TXD1/RMII_TXD1, G12 PA14/SPI1_CLK/UART3_RX/PA_EINT14, G18 PF6, H6 PA5/UART0_RX/PWM0/PA_EINT5, H17 PD1/RGMII_RXD2/MII_RXD2/RMII_NULL/DI_RX, H18 PD3/RGMII_RXD0/MII_RXD0/RMII_RXD0, H19 PD10/RGMII_TXD0/MII_TXD0/RMII_TXD0, J15 VCC-PD, K17 PD13/RGMII_TXCTL/MII_TXEN/RMII_TXEN, K18 PD15/RGMII_CLKIN/MII_COL/RMII_NULL, L17 PD14/RGMII_NULL/MII_TXERR/RMII_NULL, L18 PD16/MDC, L19 PD17/MDIO
part E pins: M1 PL1/S_TWI_SDA/S_PL_EINT1, M6 PL9/S_PL_EINT9, N1 PL0/S_TWI_SCK/S_PL_EINT0, N2 PL4/S_JTAG_MS/S_PL_EINT4, P2 PL2/S_UART_TX/S_PL_EINT2, R1 PL3/S_UART_RX/S_PL_EINT3, R2 PL5/S_JTAG_CK/S_PL_EINT5, T2 PL8/S_PL_EINT8, T3 PL7/S_JTAG_SI/S_PL_EINT7, T4 PL6/S_JTAG_DO/S_PL_EINT6, U2 PL11/S_CIR_RX/S_PL_EINT11, V2 PL10/S_PWM/S_PL_EINT10
part F pins: A2 EPHY_LINK_LED, A3 EPHY_TXN, A4 EPHY_RXN, AA2 LINEOUTR, AA3 LINEINL, B3 EPHY_TXP, B4 EPHY_RXP, E2 HTXCN, F1 HTX0N, F2 HTXCP, F6 EPHY_RTX, F7 EPHY_SPD_LED, F8 EPHY_GND, F10 TVOUT, G1 HTX0P, G2 HTX1N, G5 HCEC, G7 EPHY_VCC, G8 EPHY_VDD, G9 V33_TV, H2 HTX1P, H3 HSCL, H8 GND_TV, J1 HTX2P, J2 HTX2N, J6 HVCC, K3 HSDA, M2 HHPD, M5 HGND, U3 AGND, V1 MICIN1N, V3 AVCC, V4 VRP, W1 MICIN1P, W2 MICIN2P, W3 MBIAS, W5 VRA2, Y1 MICIN2N, Y2 LINEOUTL, Y3 VRA1, Y4 LINEINR
part G pins: A1 JTAG_SEL0, A5 USB_DP0, A7 USB_DP2, A8 USB_DM2, AA5 KEYADC, AA6 NMI, B2 JTAG_SEL, B5 USB_DM0, B6 USB_DP1, B7 USB_DM1, B8 USB_DP3, B9 USB_DM3, G10 VDD_EFUSE, G11 VCC-USB, H11 VDD_EFUSEBP, K1 X24MOUT, K2 X24MIN, K4 X24MFOUT, K6 VCC_RTC, L5 PLLTEST, M4 RTC_VIO, N3 VCC_PLL, P3 X32KFOUT, T5 TEST, U4 X32KOUT, V5 X32KIN, V6 RESET, W6 UBOOT
part H pins: G13 VCC_IO0, G14 VCC_IO1, G15 VCC_IO2, H10 VDD_SYS0, H13 VCC_IO3, H14 VCC_IO4, J7 VDD_CPUS0, J8 VDD_CPUS1, J10 VDD_SYS2, J11 VDD_SYS3, J12 VDD_SYS4, J14 VCC_IO5, K10 VDD_SYS5, K11 VDD_SYS6, K12 VDD_SYS7, L10 VDD_SYS1, L11 VDD_SYS8, L12 VDD_SYS9, L13 VDD_SYS10, L14 VDD_SYS11, N8 VDD_CPUX0, P6 VDD_CPUX1, P7 VDD_CPUX2, P8 VDD_CPUX3, P9 VDD_CPUX4, R6 VDD_CPUX5, R7 VDD_CPUX6, R8 VDD_CPUX7, T6 VDD_CPUX8, T7 VDD_CPUX9, T8 VDD_CPUX10, T9 GND_CPUXFB, T10 VDD_CPUXFB, U6 VDD_CPUX11, U9 VDD_CPUX12
part I pins: A21 GND0, AA1 GND46, H12 GND1, H15 GND2, J9 GND14, J13 GND3, J16 GND4, K7 GND5, K8 GND6, K9 GND7, K13 GND8, K14 GND9, K15 GND10, K16 GND11, L8 GND12, L9 GND13, L15 GND15, M7 GND16, M8 GND17, M9 GND18, M10 GND19, M11 GND20, M12 GND21, M13 GND22, M14 GND23, M15 GND24, N7 GND25, N9 GND26, N10 GND27, N11 GND28, N12 GND29, N13 GND30, N14 GND31, N15 GND32, P10 GND33, P11 GND34, P12 GND35, P13 GND36, P14 GND37, P15 GND38, R9 GND39, R10 GND40, R11 GND41, R12 GND42, R13 GND43, R14 GND44, T11 GND45
part A text: DRAM
part B text: NAND
part C text: SDC1
part D text: GPIO
part E text: CPUS
part F text: HDMI; AUDIO / CODEC; EPHY
part G text: USB; SYS
part H text: POWER
part I text: GND

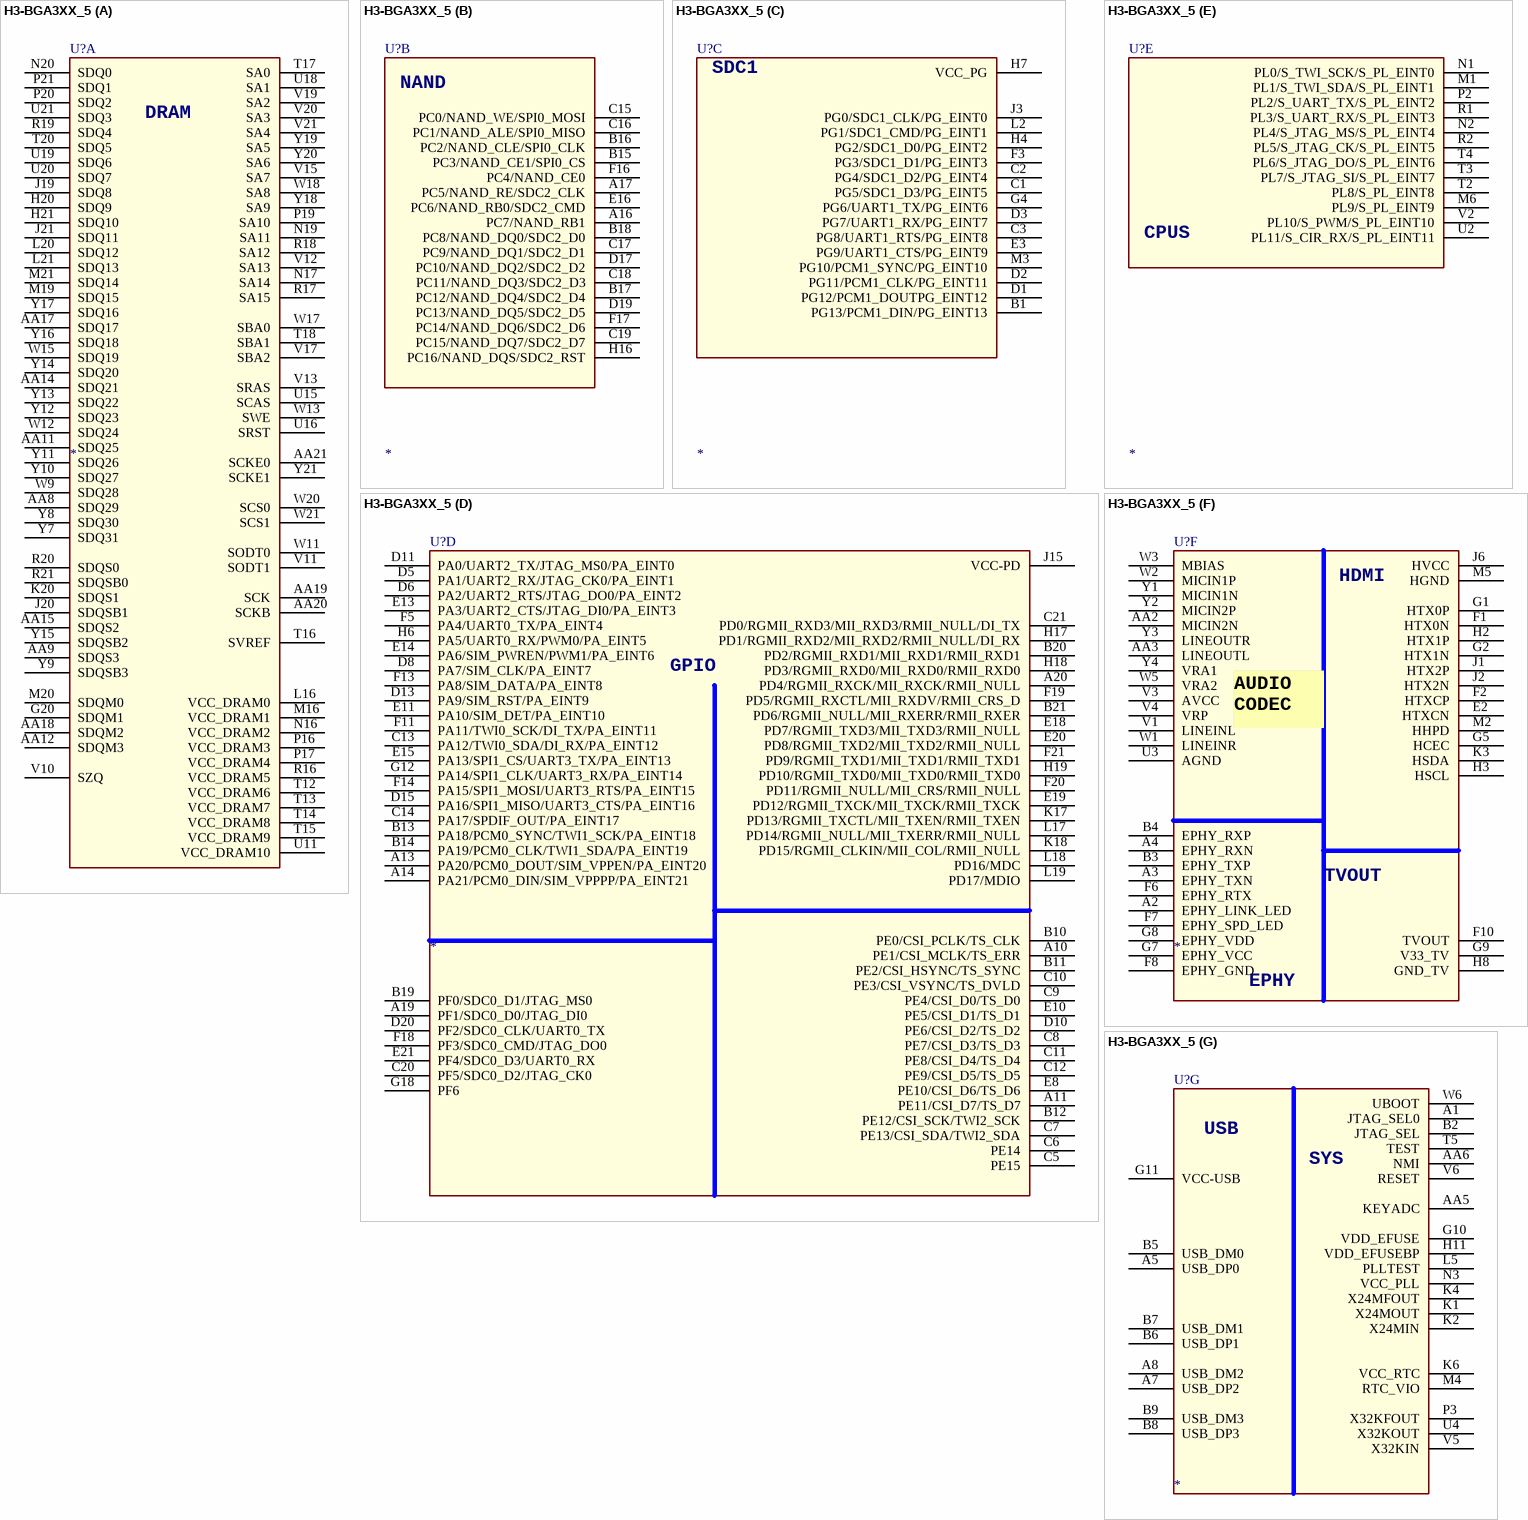
[diagram p19: symbol H3-BGA3XX_5]

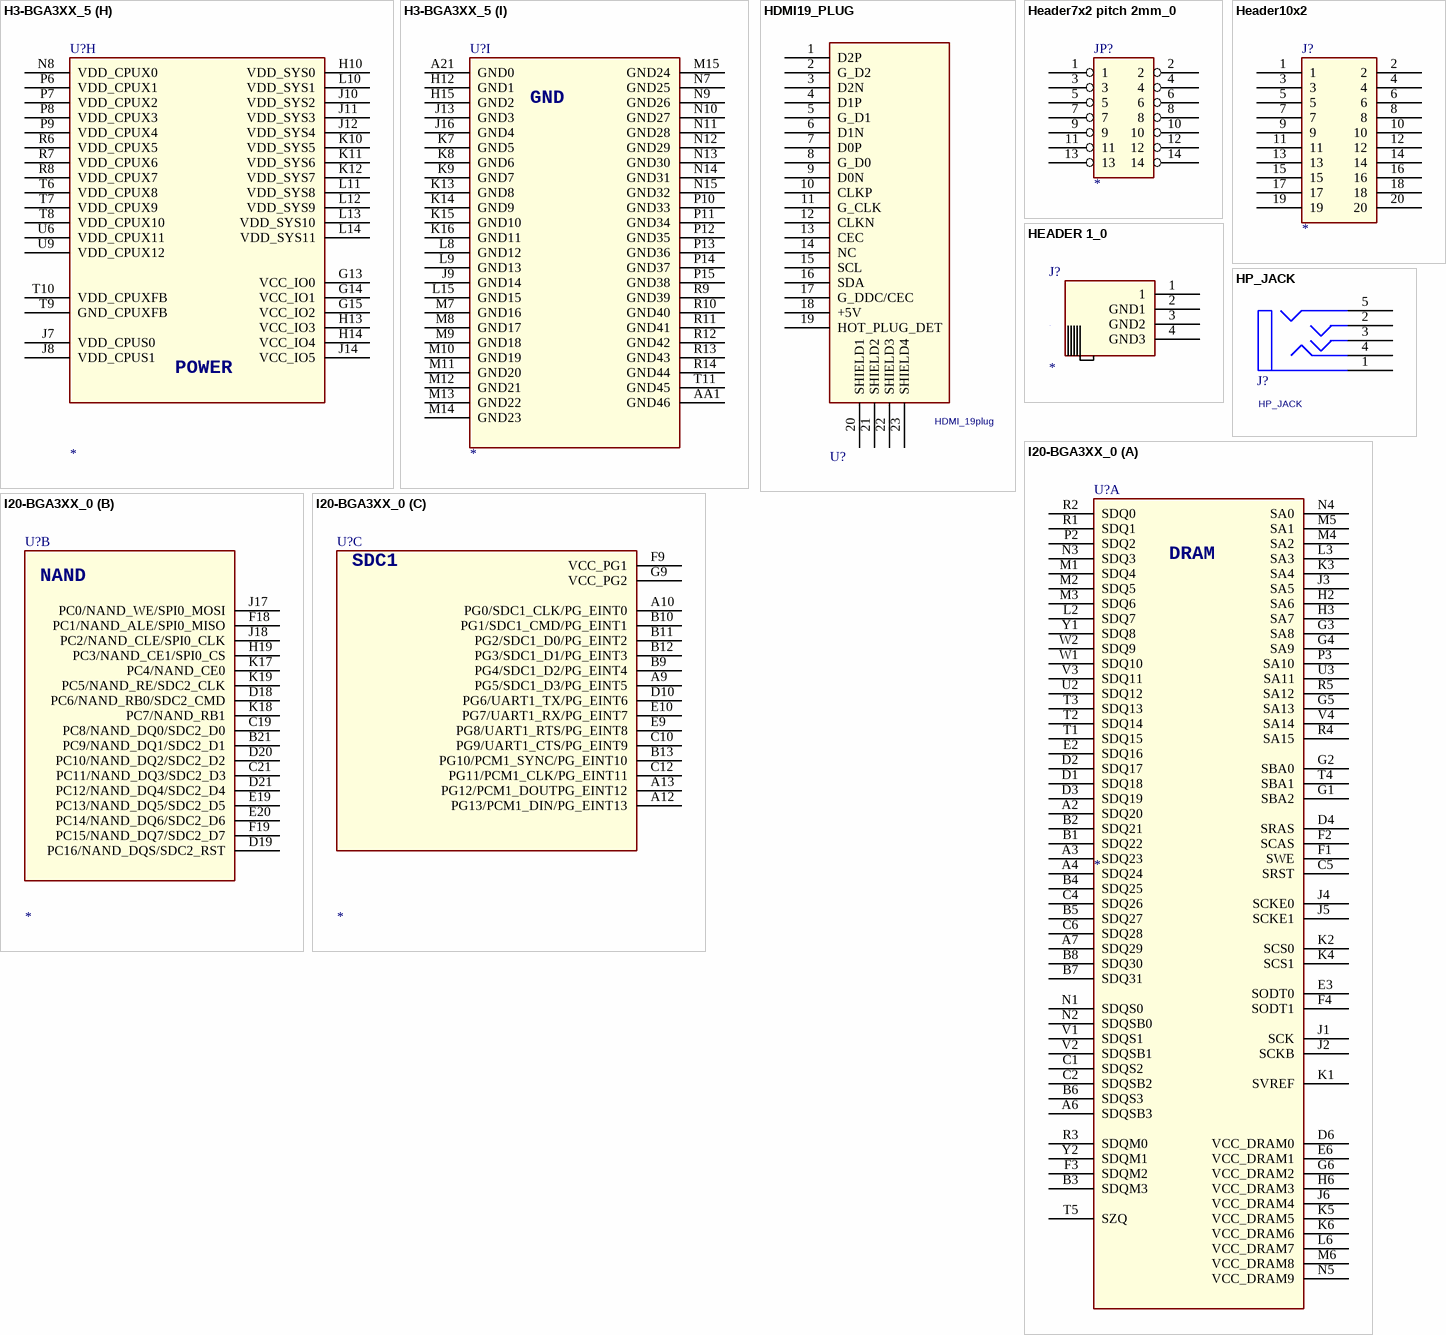
[diagram p20: symbols H3-BGA3XX_5 to I20-BGA3XX_0]

## H3-BGA3XX_5
designator U?
footprint BGA347P0_65B14X14
part A pins: AA8 SDQ29, AA9 SDQS3, AA11 SDQ25, AA12 SDQM3, AA14 SDQ21, AA15 SDQS2, AA17 SDQ17, AA18 SDQM2, AA19 SCK, AA20 SCKB, AA21 SCKE0, G20 SDQM1, H20 SDQ9, H21 SDQ10, J19 SDQ8, J20 SDQSB1, J21 SDQ11, K20 SDQS1, L16 VCC_DRAM0, L20 SDQ12, L21 SDQ13, M16 VCC_DRAM1, M19 SDQ15, M20 SDQM0, M21 SDQ14, N16 VCC_DRAM2, N17 SA14, N19 SA11, N20 SDQ0, P16 VCC_DRAM3, P17 VCC_DRAM4, P19 SA10, P20 SDQ2, P21 SDQ1, R16 VCC_DRAM5, R17 SA15, R18 SA12, R19 SDQ4, R20 SDQS0, R21 SDQSB0, T12 VCC_DRAM6, T13 VCC_DRAM7, T14 VCC_DRAM8, T15 VCC_DRAM9, T16 SVREF, T17 SA0, T18 SBA1, T20 SDQ5, U11 VCC_DRAM10, U15 SCAS, U16 SRST, U18 SA1, U19 SDQ6, U20 SDQ7, U21 SDQ3, V10 SZQ, V11 SODT1, V12 SA13, V13 SRAS, V15 SA7, V17 SBA2, V19 SA2, V20 SA3, V21 SA4, W9 SDQ28, W11 SODT0, W12 SDQ24, W13 SWE, W15 SDQ19, W17 SBA0, W18 SA8, W20 SCS0, W21 SCS1, Y7 SDQ31, Y8 SDQ30, Y9 SDQSB3, Y10 SDQ27, Y11 SDQ26, Y12 SDQ23, Y13 SDQ22, Y14 SDQ20, Y15 SDQSB2, Y16 SDQ18, Y17 SDQ16, Y18 SA9, Y19 SA5, Y20 SA6, Y21 SCKE1
part B pins: A16 PC7/NAND_RB1, A17 PC5/NAND_RE/SDC2_CLK, B15 PC3/NAND_CE1/SPI0_CS, B16 PC2/NAND_CLE/SPI0_CLK, B17 PC12/NAND_DQ4/SDC2_D4, B18 PC8/NAND_DQ0/SDC2_D0, C15 PC0/NAND_WE/SPI0_MOSI, C16 PC1/NAND_ALE/SPI0_MISO, C17 PC9/NAND_DQ1/SDC2_D1, C18 PC11/NAND_DQ3/SDC2_D3, C19 PC15/NAND_DQ7/SDC2_D7, D17 PC10/NAND_DQ2/SDC2_D2, D19 PC13/NAND_DQ5/SDC2_D5, E16 PC6/NAND_RB0/SDC2_CMD, F16 PC4/NAND_CE0, F17 PC14/NAND_DQ6/SDC2_D6, H16 PC16/NAND_DQS/SDC2_RST
part C pins: B1 PG13/PCM1_DIN/PG_EINT13, C1 PG5/SDC1_D3/PG_EINT5, C2 PG4/SDC1_D2/PG_EINT4, C3 PG8/UART1_RTS/PG_EINT8, D1 PG12/PCM1_DOUTPG_EINT12, D2 PG11/PCM1_CLK/PG_EINT11, D3 PG7/UART1_RX/PG_EINT7, E3 PG9/UART1_CTS/PG_EINT9, F3 PG3/SDC1_D1/PG_EINT3, G4 PG6/UART1_TX/PG_EINT6, H4 PG2/SDC1_D0/PG_EINT2, H7 VCC_PG, J3 PG0/SDC1_CLK/PG_EINT0, L2 PG1/SDC1_CMD/PG_EINT1, M3 PG10/PCM1_SYNC/PG_EINT10
part D pins: A10 PE1/CSI_MCLK/TS_ERR, A11 PE11/CSI_D7/TS_D7, A13 PA20/PCM0_DOUT/SIM_VPPEN/PA_EINT20, A14 PA21/PCM0_DIN/SIM_VPPPP/PA_EINT21, A19 PF1/SDC0_D0/JTAG_DI0, A20 PD4/RGMII_RXCK/MII_RXCK/RMII_NULL, B10 PE0/CSI_PCLK/TS_CLK, B11 PE2/CSI_HSYNC/TS_SYNC, B12 PE12/CSI_SCK/TWI2_SCK, B13 PA18/PCM0_SYNC/TWI1_SCK/PA_EINT18, B14 PA19/PCM0_CLK/TWI1_SDA/PA_EINT19, B19 PF0/SDC0_D1/JTAG_MS0, B20 PD2/RGMII_RXD1/MII_RXD1/RMII_RXD1, B21 PD6/RGMII_NULL/MII_RXERR/RMII_RXER, C5 PE15, C6 PE14, C7 PE13/CSI_SDA/TWI2_SDA, C8 PE7/CSI_D3/TS_D3, C9 PE4/CSI_D0/TS_D0, C10 PE3/CSI_VSYNC/TS_DVLD, C11 PE8/CSI_D4/TS_D4, C12 PE9/CSI_D5/TS_D5, C13 PA12/TWI0_SDA/DI_RX/PA_EINT12, C14 PA17/SPDIF_OUT/PA_EINT17, C20 PF5/SDC0_D2/JTAG_CK0, C21 PD0/RGMII_RXD3/MII_RXD3/RMII_NULL/DI_TX, D5 PA1/UART2_RX/JTAG_CK0/PA_EINT1, D6 PA2/UART2_RTS/JTAG_DO0/PA_EINT2, D8 PA7/SIM_CLK/PA_EINT7, D10 PE6/CSI_D2/TS_D2, D11 PA0/UART2_TX/JTAG_MS0/PA_EINT0, D13 PA9/SIM_RST/PA_EINT9, D15 PA16/SPI1_MISO/UART3_CTS/PA_EINT16, D20 PF2/SDC0_CLK/UART0_TX, E8 PE10/CSI_D6/TS_D6, E10 PE5/CSI_D1/TS_D1, E11 PA10/SIM_DET/PA_EINT10, E13 PA3/UART2_CTS/JTAG_DI0/PA_EINT3, E14 PA6/SIM_PWREN/PWM1/PA_EINT6, E15 PA13/SPI1_CS/UART3_TX/PA_EINT13, E18 PD7/RGMII_TXD3/MII_TXD3/RMII_NULL, E19 PD12/RGMII_TXCK/MII_TXCK/RMII_TXCK, E20 PD8/RGMII_TXD2/MII_TXD2/RMII_NULL, E21 PF4/SDC0_D3/UART0_RX, F5 PA4/UART0_TX/PA_EINT4, F11 PA11/TWI0_SCK/DI_TX/PA_EINT11, F13 PA8/SIM_DATA/PA_EINT8, F14 PA15/SPI1_MOSI/UART3_RTS/PA_EINT15, F18 PF3/SDC0_CMD/JTAG_DO0, F19 PD5/RGMII_RXCTL/MII_RXDV/RMII_CRS_D, F20 PD11/RGMII_NULL/MII_CRS/RMII_NULL, F21 PD9/RGMII_TXD1/MII_TXD1/RMII_TXD1, G12 PA14/SPI1_CLK/UART3_RX/PA_EINT14, G18 PF6, H6 PA5/UART0_RX/PWM0/PA_EINT5, H17 PD1/RGMII_RXD2/MII_RXD2/RMII_NULL/DI_RX, H18 PD3/RGMII_RXD0/MII_RXD0/RMII_RXD0, H19 PD10/RGMII_TXD0/MII_TXD0/RMII_TXD0, J15 VCC-PD, K17 PD13/RGMII_TXCTL/MII_TXEN/RMII_TXEN, K18 PD15/RGMII_CLKIN/MII_COL/RMII_NULL, L17 PD14/RGMII_NULL/MII_TXERR/RMII_NULL, L18 PD16/MDC, L19 PD17/MDIO
part E pins: M1 PL1/S_TWI_SDA/S_PL_EINT1, M6 PL9/S_PL_EINT9, N1 PL0/S_TWI_SCK/S_PL_EINT0, N2 PL4/S_JTAG_MS/S_PL_EINT4, P2 PL2/S_UART_TX/S_PL_EINT2, R1 PL3/S_UART_RX/S_PL_EINT3, R2 PL5/S_JTAG_CK/S_PL_EINT5, T2 PL8/S_PL_EINT8, T3 PL7/S_JTAG_SI/S_PL_EINT7, T4 PL6/S_JTAG_DO/S_PL_EINT6, U2 PL11/S_CIR_RX/S_PL_EINT11, V2 PL10/S_PWM/S_PL_EINT10
part F pins: A2 EPHY_LINK_LED, A3 EPHY_TXN, A4 EPHY_RXN, AA2 MICIN2N, AA3 LINEOUTL, B3 EPHY_TXP, B4 EPHY_RXP, E2 HTXCN, F1 HTX0N, F2 HTXCP, F6 EPHY_RTX, F7 EPHY_SPD_LED, F8 EPHY_GND, F10 TVOUT, G1 HTX0P, G2 HTX1N, G5 HCEC, G7 EPHY_VCC, G8 EPHY_VDD, G9 V33_TV, H2 HTX1P, H3 HSCL, H8 GND_TV, J1 HTX2P, J2 HTX2N, J6 HVCC, K3 HSDA, M2 HHPD, M5 HGND, U3 AGND, V1 LINEINL, V3 AVCC, V4 VRP, W1 LINEINR, W2 MICIN1P, W3 MBIAS, W5 VRA2, Y1 MICIN1N, Y2 MICIN2P, Y3 LINEOUTR, Y4 VRA1
part G pins: A1 JTAG_SEL0, A5 USB_DP0, A7 USB_DP2, A8 USB_DM2, AA5 KEYADC, AA6 NMI, B2 JTAG_SEL, B5 USB_DM0, B6 USB_DP1, B7 USB_DM1, B8 USB_DP3, B9 USB_DM3, G10 VDD_EFUSE, G11 VCC-USB, H11 VDD_EFUSEBP, K1 X24MOUT, K2 X24MIN, K4 X24MFOUT, K6 VCC_RTC, L5 PLLTEST, M4 RTC_VIO, N3 VCC_PLL, P3 X32KFOUT, T5 TEST, U4 X32KOUT, V5 X32KIN, V6 RESET, W6 UBOOT
part H pins: G13 VCC_IO0, G14 VCC_IO1, G15 VCC_IO2, H10 VDD_SYS0, H13 VCC_IO3, H14 VCC_IO4, J7 VDD_CPUS0, J8 VDD_CPUS1, J10 VDD_SYS2, J11 VDD_SYS3, J12 VDD_SYS4, J14 VCC_IO5, K10 VDD_SYS5, K11 VDD_SYS6, K12 VDD_SYS7, L10 VDD_SYS1, L11 VDD_SYS8, L12 VDD_SYS9, L13 VDD_SYS10, L14 VDD_SYS11, N8 VDD_CPUX0, P6 VDD_CPUX1, P7 VDD_CPUX2, P8 VDD_CPUX3, P9 VDD_CPUX4, R6 VDD_CPUX5, R7 VDD_CPUX6, R8 VDD_CPUX7, T6 VDD_CPUX8, T7 VDD_CPUX9, T8 VDD_CPUX10, T9 GND_CPUXFB, T10 VDD_CPUXFB, U6 VDD_CPUX11, U9 VDD_CPUX12
part I pins: A21 GND0, AA1 GND46, H12 GND1, H15 GND2, J9 GND14, J13 GND3, J16 GND4, K7 GND5, K8 GND6, K9 GND7, K13 GND8, K14 GND9, K15 GND10, K16 GND11, L8 GND12, L9 GND13, L15 GND15, M7 GND16, M8 GND17, M9 GND18, M10 GND19, M11 GND20, M12 GND21, M13 GND22, M14 GND23, M15 GND24, N7 GND25, N9 GND26, N10 GND27, N11 GND28, N12 GND29, N13 GND30, N14 GND31, N15 GND32, P10 GND33, P11 GND34, P12 GND35, P13 GND36, P14 GND37, P15 GND38, R9 GND39, R10 GND40, R11 GND41, R12 GND42, R13 GND43, R14 GND44, T11 GND45
part A text: DRAM
part B text: NAND
part C text: SDC1
part D text: GPIO
part E text: CPUS
part F text: HDMI; AUDIO / CODEC; EPHY
part G text: USB; SYS
part H text: POWER
part I text: GND

## HDMI19_PLUG
designator U?, comment HDMI_19plug
footprint HDMI
pins: 1 D2P, 2 G_D2, 3 D2N, 4 D1P, 5 G_D1, 6 D1N, 7 D0P, 8 G_D0, 9 D0N, 10 CLKP, 11 G_CLK, 12 CLKN, 13 CEC, 14 NC, 15 SCL, 16 SDA, 17 G_DDC/CEC, 18 +5V, 19 HOT_PLUG_DET, 20 SHIELD1, 21 SHIELD2, 22 SHIELD3, 23 SHIELD4

## Header7x2 pitch 2mm_0
designator JP?
pins: 1, 2, 3, 4, 5, 6, 7, 8, 9, 10, 11, 12, 13, 14

## Header10x2
designator J?
footprint IDC-20
pins: 1, 2, 3, 4, 5, 6, 7, 8, 9, 10, 11, 12, 13, 14, 15, 16, 17, 18, 19, 20

## HEADER 1_0
designator J?
pins: 1, 2 GND1, 3 GND2, 4 GND3

## HP_JACK
designator J?
footprint HP_JACK
pins: 1 E, 2 B, 3 C, 4 D, 5 A

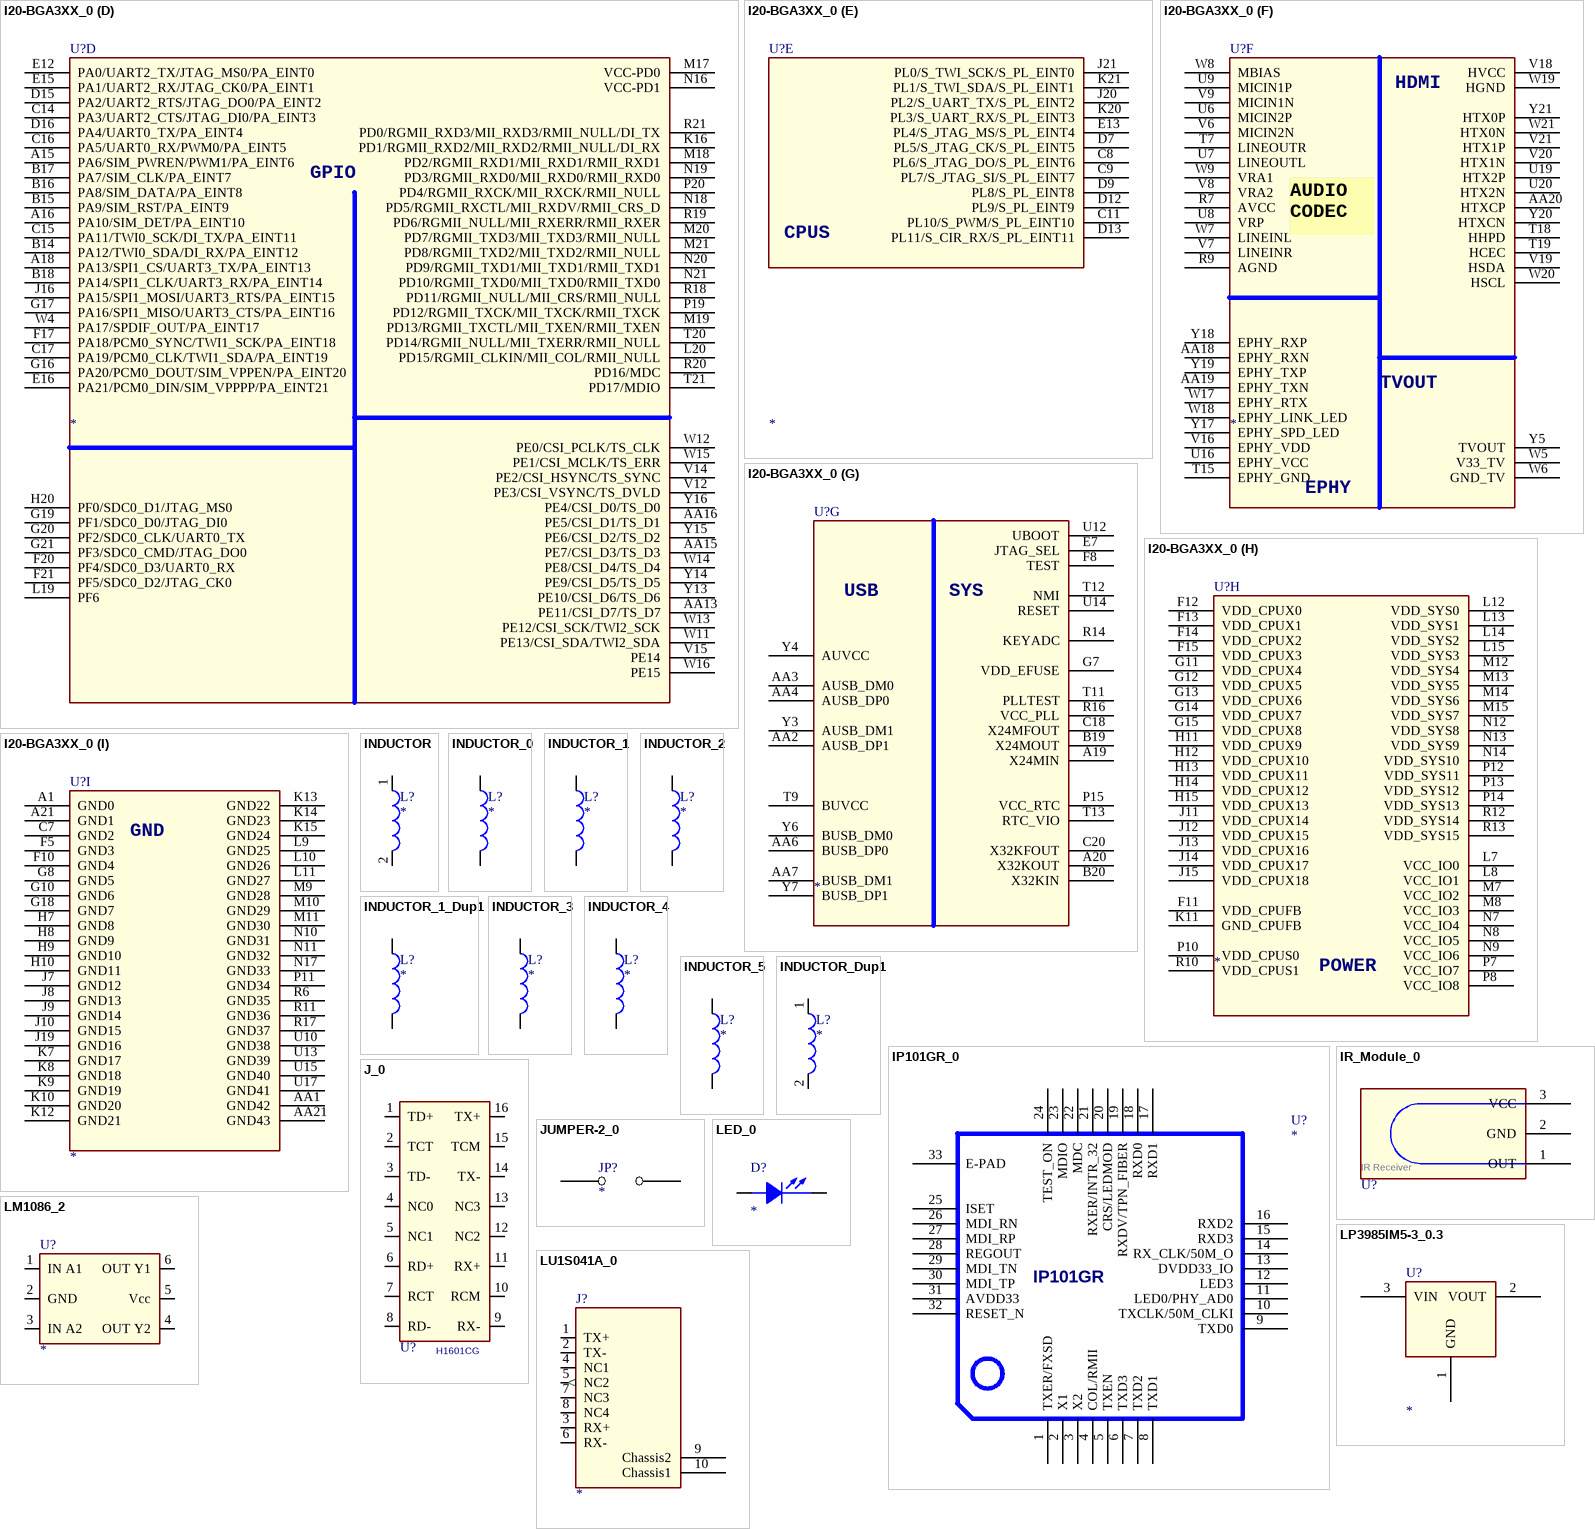
[diagram p21: symbols I20-BGA3XX_0 to LU1S041A_0]

## I20-BGA3XX_0
designator U?
part A pins: A2 SDQ20, A3 SDQ23, A4 SDQ24, A6 SDQSB3, A7 SDQ29, B1 SDQ22, B2 SDQ21, B3 SDQM3, B4 SDQ25, B5 SDQ27, B6 SDQS3, B7 SDQ31, B8 SDQ30, C1 SDQS2, C2 SDQSB2, C4 SDQ26, C5 SRST, C6 SDQ28, D1 SDQ18, D2 SDQ17, D3 SDQ19, D4 SRAS, D6 VCC_DRAM0, E2 SDQ16, E3 SODT0, E6 VCC_DRAM1, F1 SWE, F2 SCAS, F3 SDQM2, F4 SODT1, G1 SBA2, G2 SBA0, G3 SA8, G4 SA9, G5 SA13, G6 VCC_DRAM2, H2 SA6, H3 SA7, H6 VCC_DRAM3, J1 SCK, J2 SCKB, J3 SA5, J4 SCKE0, J5 SCKE1, J6 VCC_DRAM4, K1 SVREF, K2 SCS0, K3 SA4, K4 SCS1, K5 VCC_DRAM5, K6 VCC_DRAM6, L2 SDQ7, L3 SA3, L6 VCC_DRAM7, M1 SDQ4, M2 SDQ5, M3 SDQ6, M4 SA2, M5 SA1, M6 VCC_DRAM8, N1 SDQS0, N2 SDQSB0, N3 SDQ3, N4 SA0, N5 VCC_DRAM9, P2 SDQ2, P3 SA10, R1 SDQ1, R2 SDQ0, R3 SDQM0, R4 SA15, R5 SA12, T1 SDQ15, T2 SDQ14, T3 SDQ13, T4 SBA1, T5 SZQ, U2 SDQ12, U3 SA11, V1 SDQS1, V2 SDQSB1, V3 SDQ11, V4 SA14, W1 SDQ10, W2 SDQ9, Y1 SDQ8, Y2 SDQM1
part B pins: B21 PC9/NAND_DQ1/SDC2_D1, C19 PC8/NAND_DQ0/SDC2_D0, C21 PC11/NAND_DQ3/SDC2_D3, D18 PC6/NAND_RB0/SDC2_CMD, D19 PC16/NAND_DQS/SDC2_RST, D20 PC10/NAND_DQ2/SDC2_D2, D21 PC12/NAND_DQ4/SDC2_D4, E19 PC13/NAND_DQ5/SDC2_D5, E20 PC14/NAND_DQ6/SDC2_D6, F18 PC1/NAND_ALE/SPI0_MISO, F19 PC15/NAND_DQ7/SDC2_D7, H19 PC3/NAND_CE1/SPI0_CS, J17 PC0/NAND_WE/SPI0_MOSI, J18 PC2/NAND_CLE/SPI0_CLK, K17 PC4/NAND_CE0, K18 PC7/NAND_RB1, K19 PC5/NAND_RE/SDC2_CLK
part C pins: A9 PG5/SDC1_D3/PG_EINT5, A10 PG0/SDC1_CLK/PG_EINT0, A12 PG13/PCM1_DIN/PG_EINT13, A13 PG12/PCM1_DOUTPG_EINT12, B9 PG4/SDC1_D2/PG_EINT4, B10 PG1/SDC1_CMD/PG_EINT1, B11 PG2/SDC1_D0/PG_EINT2, B12 PG3/SDC1_D1/PG_EINT3, B13 PG10/PCM1_SYNC/PG_EINT10, C10 PG9/UART1_CTS/PG_EINT9, C12 PG11/PCM1_CLK/PG_EINT11, D10 PG6/UART1_TX/PG_EINT6, E9 PG8/UART1_RTS/PG_EINT8, E10 PG7/UART1_RX/PG_EINT7, F9 VCC_PG1, G9 VCC_PG2
part D pins: A15 PA6/SIM_PWREN/PWM1/PA_EINT6, A16 PA10/SIM_DET/PA_EINT10, A18 PA13/SPI1_CS/UART3_TX/PA_EINT13, AA13 PE11/CSI_D7/TS_D7, AA15 PE7/CSI_D3/TS_D3, AA16 PE5/CSI_D1/TS_D1, B14 PA12/TWI0_SDA/DI_RX/PA_EINT12, B15 PA9/SIM_RST/PA_EINT9, B16 PA8/SIM_DATA/PA_EINT8, B17 PA7/SIM_CLK/PA_EINT7, B18 PA14/SPI1_CLK/UART3_RX/PA_EINT14, C14 PA3/UART2_CTS/JTAG_DI0/PA_EINT3, C15 PA11/TWI0_SCK/DI_TX/PA_EINT11, C16 PA5/UART0_RX/PWM0/PA_EINT5, C17 PA19/PCM0_CLK/TWI1_SDA/PA_EINT19, D15 PA2/UART2_RTS/JTAG_DO0/PA_EINT2, D16 PA4/UART0_TX/PA_EINT4, E12 PA0/UART2_TX/JTAG_MS0/PA_EINT0, E15 PA1/UART2_RX/JTAG_CK0/PA_EINT1, E16 PA21/PCM0_DIN/SIM_VPPPP/PA_EINT21, F17 PA18/PCM0_SYNC/TWI1_SCK/PA_EINT18, F20 PF4/SDC0_D3/UART0_RX, F21 PF5/SDC0_D2/JTAG_CK0, G16 PA20/PCM0_DOUT/SIM_VPPEN/PA_EINT20, G17 PA16/SPI1_MISO/UART3_CTS/PA_EINT16, G19 PF1/SDC0_D0/JTAG_DI0, G20 PF2/SDC0_CLK/UART0_TX, G21 PF3/SDC0_CMD/JTAG_DO0, H20 PF0/SDC0_D1/JTAG_MS0, J16 PA15/SPI1_MOSI/UART3_RTS/PA_EINT15, K16 PD1/RGMII_RXD2/MII_RXD2/RMII_NULL/DI_RX, L19 PF6, L20 PD15/RGMII_CLKIN/MII_COL/RMII_NULL, M17 VCC-PD0, M18 PD2/RGMII_RXD1/MII_RXD1/RMII_RXD1, M19 PD13/RGMII_TXCTL/MII_TXEN/RMII_TXEN, M20 PD7/RGMII_TXD3/MII_TXD3/RMII_NULL, M21 PD8/RGMII_TXD2/MII_TXD2/RMII_NULL, N16 VCC-PD1, N18 PD5/RGMII_RXCTL/MII_RXDV/RMII_CRS_D, N19 PD3/RGMII_RXD0/MII_RXD0/RMII_RXD0, N20 PD9/RGMII_TXD1/MII_TXD1/RMII_TXD1, N21 PD10/RGMII_TXD0/MII_TXD0/RMII_TXD0, P19 PD12/RGMII_TXCK/MII_TXCK/RMII_TXCK, P20 PD4/RGMII_RXCK/MII_RXCK/RMII_NULL, R18 PD11/RGMII_NULL/MII_CRS/RMII_NULL, R19 PD6/RGMII_NULL/MII_RXERR/RMII_RXER, R20 PD16/MDC, R21 PD0/RGMII_RXD3/MII_RXD3/RMII_NULL/DI_TX, T20 PD14/RGMII_NULL/MII_TXERR/RMII_NULL, T21 PD17/MDIO, V12 PE3/CSI_VSYNC/TS_DVLD, V14 PE2/CSI_HSYNC/TS_SYNC, V15 PE14, W4 PA17/SPDIF_OUT/PA_EINT17, W11 PE13/CSI_SDA/TWI2_SDA, W12 PE0/CSI_PCLK/TS_CLK, W13 PE12/CSI_SCK/TWI2_SCK, W14 PE8/CSI_D4/TS_D4, W15 PE1/CSI_MCLK/TS_ERR, W16 PE15, Y13 PE10/CSI_D6/TS_D6, Y14 PE9/CSI_D5/TS_D5, Y15 PE6/CSI_D2/TS_D2, Y16 PE4/CSI_D0/TS_D0
part E pins: C8 PL6/S_JTAG_DO/S_PL_EINT6, C9 PL7/S_JTAG_SI/S_PL_EINT7, C11 PL10/S_PWM/S_PL_EINT10, D7 PL5/S_JTAG_CK/S_PL_EINT5, D9 PL8/S_PL_EINT8, D12 PL9/S_PL_EINT9, D13 PL11/S_CIR_RX/S_PL_EINT11, E13 PL4/S_JTAG_MS/S_PL_EINT4, J20 PL2/S_UART_TX/S_PL_EINT2, J21 PL0/S_TWI_SCK/S_PL_EINT0, K20 PL3/S_UART_RX/S_PL_EINT3, K21 PL1/S_TWI_SDA/S_PL_EINT1
part F pins: AA18 EPHY_RXN, AA19 EPHY_TXN, AA20 HTXCP, R7 AVCC, R9 AGND, T7 LINEOUTR, T15 EPHY_GND, T18 HHPD, T19 HCEC, U6 MICIN2P, U7 LINEOUTL, U8 VRP, U9 MICIN1P, U16 EPHY_VCC, U19 HTX2P, U20 HTX2N, V6 MICIN2N, V7 LINEINR, V8 VRA2, V9 MICIN1N, V16 EPHY_VDD, V18 HVCC, V19 HSDA, V20 HTX1N, V21 HTX1P, W5 V33_TV, W6 GND_TV, W7 LINEINL, W8 MBIAS, W9 VRA1, W17 EPHY_RTX, W18 EPHY_LINK_LED, W19 HGND, W20 HSCL, W21 HTX0N, Y5 TVOUT, Y17 EPHY_SPD_LED, Y18 EPHY_RXP, Y19 EPHY_TXP, Y20 HTXCN, Y21 HTX0P
part G pins: A19 X24MIN, A20 X32KOUT, AA2 AUSB_DP1, AA3 AUSB_DM0, AA4 AUSB_DP0, AA6 BUSB_DP0, AA7 BUSB_DM1, B19 X24MOUT, B20 X32KIN, C18 X24MFOUT, C20 X32KFOUT, E7 JTAG_SEL, F8 TEST, G7 VDD_EFUSE, P15 VCC_RTC, R14 KEYADC, R16 VCC_PLL, T9 BUVCC, T11 PLLTEST, T12 NMI, T13 RTC_VIO, U12 UBOOT, U14 RESET, Y3 AUSB_DM1, Y4 AUVCC, Y6 BUSB_DM0, Y7 BUSB_DP1
part H pins: F11 VDD_CPUFB, F12 VDD_CPUX0, F13 VDD_CPUX1, F14 VDD_CPUX2, F15 VDD_CPUX3, G11 VDD_CPUX4, G12 VDD_CPUX5, G13 VDD_CPUX6, G14 VDD_CPUX7, G15 VDD_CPUX8, H11 VDD_CPUX9, H12 VDD_CPUX10, H13 VDD_CPUX11, H14 VDD_CPUX12, H15 VDD_CPUX13, J11 VDD_CPUX14, J12 VDD_CPUX15, J13 VDD_CPUX16, J14 VDD_CPUX17, J15 VDD_CPUX18, K11 GND_CPUFB, L7 VCC_IO0, L8 VCC_IO1, L12 VDD_SYS0, L13 VDD_SYS1, L14 VDD_SYS2, L15 VDD_SYS3, M7 VCC_IO2, M8 VCC_IO3, M12 VDD_SYS4, M13 VDD_SYS5, M14 VDD_SYS6, M15 VDD_SYS7, N7 VCC_IO4, N8 VCC_IO5, N9 VCC_IO6, N12 VDD_SYS8, N13 VDD_SYS9, N14 VDD_SYS10, P7 VCC_IO7, P8 VCC_IO8, P10 VDD_CPUS0, P12 VDD_SYS11, P13 VDD_SYS12, P14 VDD_SYS13, R10 VDD_CPUS1, R12 VDD_SYS14, R13 VDD_SYS15
part I pins: A1 GND0, A21 GND1, AA1 GND42, AA21 GND43, C7 GND2, F5 GND3, F10 GND4, G8 GND5, G10 GND6, G18 GND7, H7 GND8, H8 GND9, H9 GND10, H10 GND11, J7 GND12, J8 GND13, J9 GND14, J10 GND15, J19 GND16, K7 GND17, K8 GND18, K9 GND19, K10 GND20, K12 GND21, K13 GND22, K14 GND23, K15 GND24, L9 GND25, L10 GND26, L11 GND27, M9 GND28, M10 GND29, M11 GND30, N10 GND31, N11 GND32, N17 GND33, P11 GND34, R6 GND35, R11 GND36, R17 GND37, U10 GND38, U13 GND39, U15 GND40, U17 GND41
part A text: DRAM
part B text: NAND
part C text: SDC1
part D text: GPIO
part E text: CPUS
part F text: HDMI; AUDIO / CODEC; EPHY
part G text: USB; SYS
part H text: POWER
part I text: GND

## INDUCTOR
designator L?
pins: 1, 2

## INDUCTOR_0
designator L?
pins: 1, 2

## INDUCTOR_1
designator L?
pins: 1, 2

## INDUCTOR_1_Dup1
designator L?
pins: 1, 2

## INDUCTOR_2
designator L?
pins: 1, 2

## INDUCTOR_3
designator L?
footprint 0805
pins: 1, 2

## INDUCTOR_4
designator L?
footprint 0805
pins: 1, 2

## INDUCTOR_5
designator L?
pins: 1, 2

## INDUCTOR_Dup1
designator L?
pins: 1, 2

## IP101GR_0
designator U?
pins: 1 TXER/FXSD, 2 X1, 3 X2, 4 COL/RMII, 5 TXEN, 6 TXD3, 7 TXD2, 8 TXD1, 9 TXD0, 10 TXCLK/50M_CLKI, 11 LED0/PHY_AD0, 12 LED3, 13 DVDD33_IO, 14 RX_CLK/50M_O, 15 RXD3, 16 RXD2, 17 RXD1, 18 RXD0, 19 RXDV/TPN_FIBER, 20 CRS/LEDMOD, 21 RXER/INTR_32, 22 MDC, 23 MDIO, 24 TEST_ON, 25 ISET, 26 MDI_RN, 27 MDI_RP, 28 REGOUT, 29 MDI_TN, 30 MDI_TP, 31 AVDD33, 32 RESET_N, 33 E-PAD
text: IP101GR

## IR_Module_0
designator U?, comment IR MODULE  (value not drawn)
pins: 1 OUT, 2 GND, 3 VCC
text: IR Receiver

## J_0
designator U?, comment H1601CG
pins: 1 TD+, 2 TCT, 3 TD-, 4 NC0, 5 NC1, 6 RD+, 7 RCT, 8 RD-, 9 RX-, 10 RCM, 11 RX+, 12 NC2, 13 NC3, 14 TX-, 15 TCM, 16 TX+

## JUMPER-2_0
designator JP?
footprint SIP-2
pins: 1, 2

## LED_0
designator D?
pins: 1 ANODE, 2 CATHODE

## LM1086_2
designator U?
pins: 1 IN A1, 2 GND, 3 IN A2, 4 OUT Y2, 5 Vcc, 6 OUT Y1

## LP3985IM5-3_0.3
designator U?
pins: 1 GND, 2 VOUT, 3 VIN

## LU1S041A_0
designator J?
Single RJ45 Connector Module with Integrated 10/100 Base-Tx magnetics; MANUFACTURER#: LU1S041A-43; Manufacturer: Bothhand; Part Number: LU1S041A-43
footprint LU1SO41A
pins: 1 TX+, 2 TX-, 3 RX+, 4 NC1, 5 NC2 (out), 6 RX-, 7 NC3, 8 NC4, 9 Chassis2, 10 Chassis1

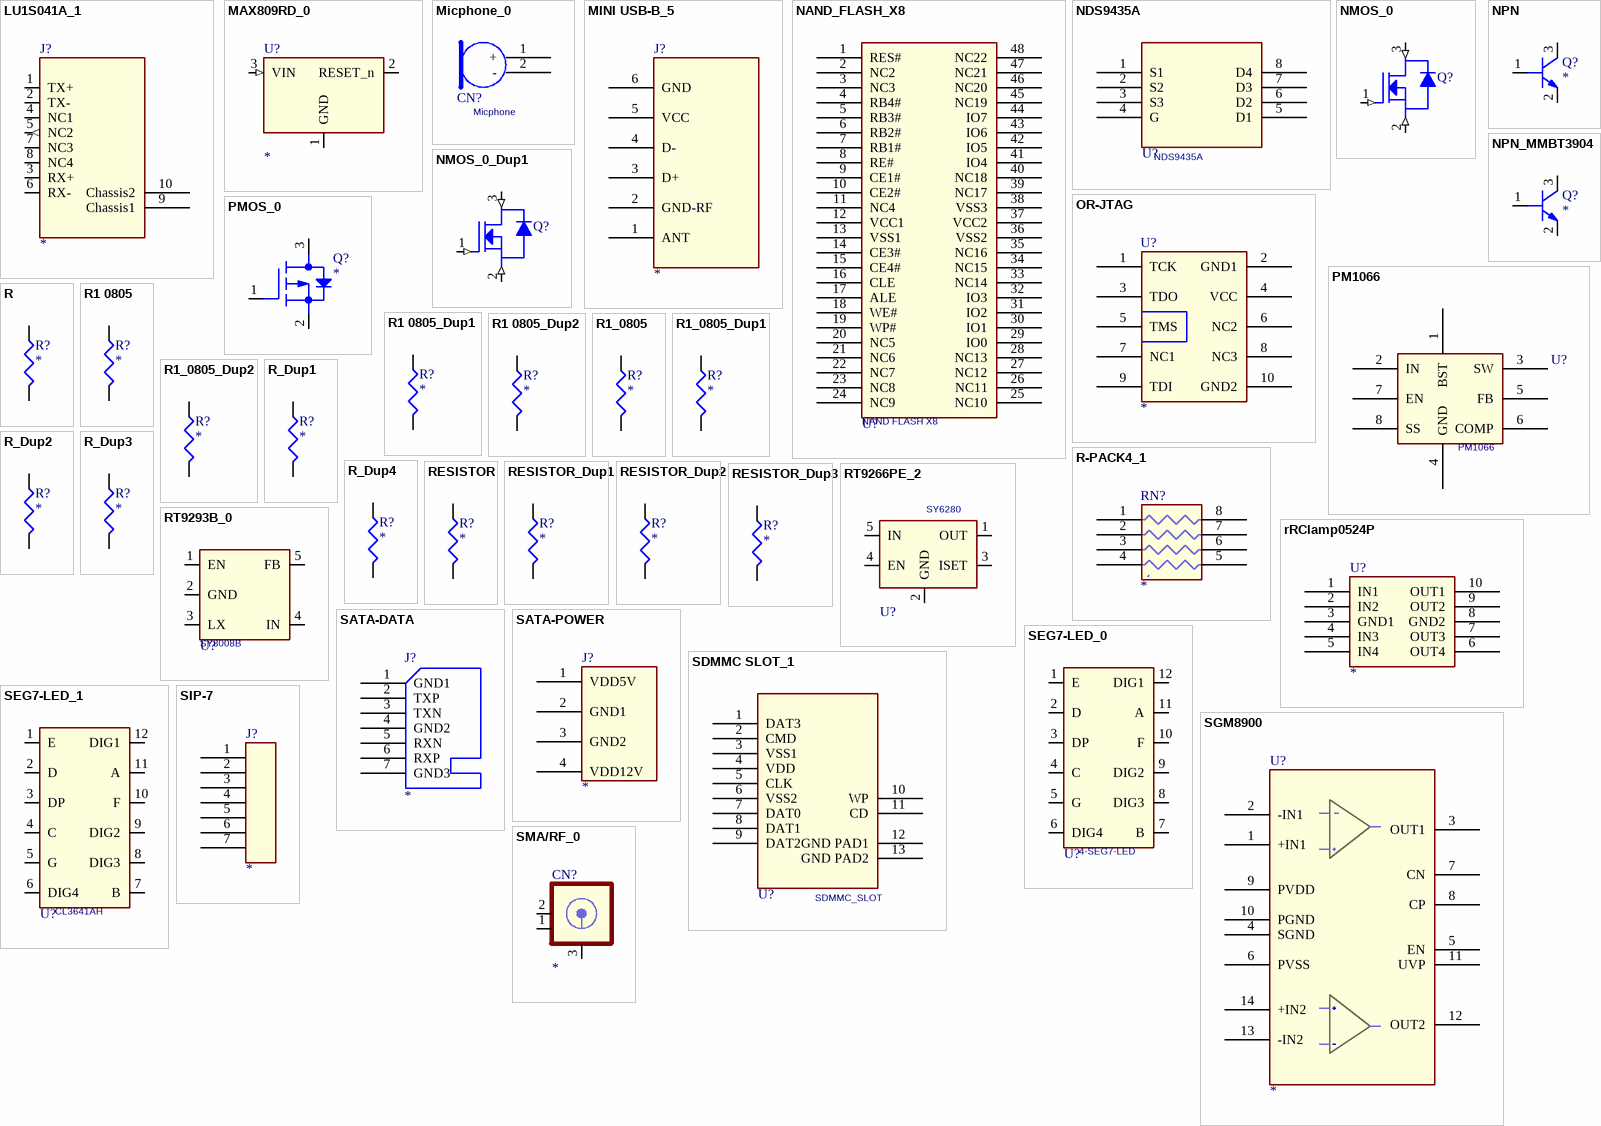
[diagram p22: symbols LU1S041A_1 to SMA/RF_0]

## LU1S041A_1
designator J?
Single RJ45 Connector Module with Integrated 10/100 Base-Tx magnetics; Manufacturer: Bothhand; Part Number: LU1S041A-43; MANUFACTURER#: LU1S041A-43
footprint LU1SO41A
pins: 1 TX+, 2 TX-, 3 RX+, 4 NC1, 5 NC2 (out), 6 RX-, 7 NC3, 8 NC4, 9 Chassis1, 10 Chassis2

## MAX809RD_0
designator U?
pins: 1 GND (power), 2 RESET_n (hiz), 3 VIN (in)

## Micphone_0
designator CN?, comment Micphone
footprint Micphone Connector
pins: 1 +, 2 -

## MINI USB-B_5
designator J?
pins: 1 ANT, 2 GND-RF, 3 D+, 4 D-, 5 VCC, 6 GND

## NAND_FLASH_X8
designator U?, comment NAND FLASH X8
footprint TSOP-48
pins: 1 RES#, 2 NC2, 3 NC3, 4 RB4#, 5 RB3#, 6 RB2#, 7 RB1#, 8 RE#, 9 CE1#, 10 CE2#, 11 NC4, 12 VCC1, 13 VSS1, 14 CE3#, 15 CE4#, 16 CLE, 17 ALE, 18 WE#, 19 WP#, 20 NC5, 21 NC6, 22 NC7, 23 NC8, 24 NC9, 25 NC10, 26 NC11, 27 NC12, 28 NC13, 29 IO0, 30 IO1, 31 IO2, 32 IO3, 33 NC14, 34 NC15, 35 NC16, 36 VSS2, 37 VCC2, 38 VSS3, 39 NC17, 40 NC18, 41 IO4, 42 IO5, 43 IO6, 44 IO7, 45 NC19, 46 NC20, 47 NC21, 48 NC22

## NDS9435A
designator U?
pins: 1 S1, 2 S2, 3 S3, 4 G, 5 D1, 6 D2, 7 D3, 8 D4

## NMOS_0
designator Q?, comment xp151  (value not drawn)
footprint sot-23
pins: 1 GATE (in), 2 SOURCE (in), 3 DRAIN (in)

## NMOS_0_Dup1
designator Q?, comment xp151  (value not drawn)
footprint sot-23
pins: 1 GATE (in), 2 SOURCE (in), 3 DRAIN (in)

## NPN
designator Q?
pins: 1 B, 2 E, 3 C

## NPN_MMBT3904
designator Q?
pins: 1 B, 2 E, 3 C

## OR-JTAG
designator U?
pins: 1 TCK, 2 GND1, 3 TDO, 4 VCC, 5 TMS, 6 NC2, 7 NC1, 8 NC3, 9 TDI, 10 GND2

## PM1066
designator U?
pins: 1 BST, 2 IN, 3 SW, 4 GND, 5 FB, 6 COMP, 7 EN, 8 SS

## PMOS_0
designator Q?
pins: 1 GATE, 2 SOURCE, 3 DRAIN

## R
designator R?
pins: 1, 2

## R1 0805
designator R?
footprint 0805
pins: 1, 2

## R1 0805_Dup1
designator R?
footprint 0805
pins: 1, 2

## R1 0805_Dup2
designator R?
footprint 0805
pins: 1, 2

## R1_0805
designator R?
footprint 0805
pins: 1, 2

## R1_0805_Dup1
designator R?
footprint 0805
pins: 1, 2

## R1_0805_Dup2
designator R?
footprint 0805
pins: 1, 2

## R-PACK4_1
designator RN?
pins: 1 R1, 2 R2, 3 R3, 4 R4, 5 R5, 6 R6, 7 R7, 8 R8

## R_Dup1
designator R?
pins: 1, 2

## R_Dup2
designator R?
pins: 1, 2

## R_Dup3
designator R?
pins: 1, 2

## R_Dup4
designator R?
pins: 1, 2

## RESISTOR
designator R?
pins: 1, 2

## RESISTOR_Dup1
designator R?
pins: 1, 2

## RESISTOR_Dup2
designator R?
pins: 1, 2

## RESISTOR_Dup3
designator R?
pins: 1, 2

## rRClamp0524P
designator U?
pins: 1 IN1, 2 IN2, 3 GND1, 4 IN3, 5 IN4, 6 OUT4, 7 OUT3, 8 GND2, 9 OUT2, 10 OUT1

## RT9266PE_2
designator U?, comment SY6280
footprint SOT23-6
pins: 1 OUT, 2 GND, 3 ISET, 4 EN, 5 IN

## RT9293B_0
designator U?, comment SY8008B
footprint TSOT-23-6
pins: 1 EN, 2 GND, 3 LX, 4 IN, 5 FB

## SATA-DATA
designator J?
pins: 1 GND1, 2 TXP, 3 TXN, 4 GND2, 5 RXN, 6 RXP, 7 GND3

## SATA-POWER
designator J?
pins: 1 VDD5V, 2 GND1, 3 GND2, 4 VDD12V

## SDMMC SLOT_1
designator U?, comment SDMMC_SLOT
pins: 1 DAT3, 2 CMD, 3 VSS1, 4 VDD, 5 CLK, 6 VSS2, 7 DAT0, 8 DAT1, 9 DAT2, 10 WP, 11 CD, 12 GND PAD1, 13 GND PAD2

## SEG7-LED_0
designator U?, comment 4-SEG7-LED
pins: 1 E, 2 D, 3 DP, 4 C, 5 G, 6 DIG4, 7 B, 8 DIG3, 9 DIG2, 10 F, 11 A, 12 DIG1

## SEG7-LED_1
designator U?, comment CL3641AH
pins: 1 E, 2 D, 3 DP, 4 C, 5 G, 6 DIG4, 7 B, 8 DIG3, 9 DIG2, 10 F, 11 A, 12 DIG1

## SGM8900
designator U?
footprint TSSOP14
pins: 1 +IN1, 2 -IN1, 3 OUT1, 4 SGND, 5 EN, 6 PVSS, 7 CN, 8 CP, 9 PVDD, 10 PGND, 11 UVP, 12 OUT2, 13 -IN2, 14 +IN2

## SIP-7
designator J?
footprint SIP-7
pins: 1, 2, 3, 4, 5, 6, 7

## SMA/RF_0
designator CN?
pins: 1 SHIELD2, 2 SHIELD1, 3 CENTER

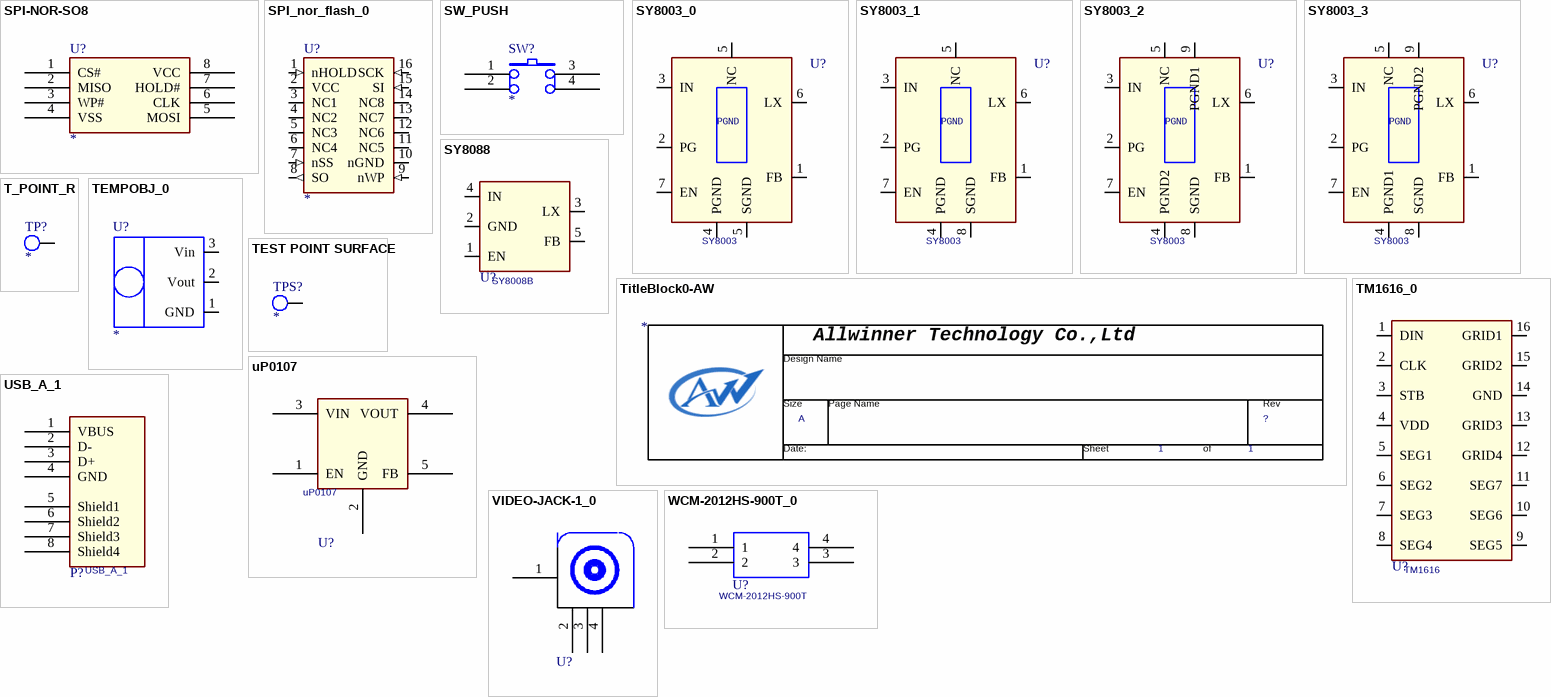
[diagram p23: symbols SPI-NOR-SO8 to WCM-2012HS-900T_0]

## SPI-NOR-SO8
designator U?
footprint SOIC-8
pins: 1 CS#, 2 MISO, 3 WP#, 4 VSS, 5 MOSI, 6 CLK, 7 HOLD#, 8 VCC

## SPI_nor_flash_0
designator U?
pins: 1 nHOLD (in), 2 VCC (power), 3 NC1, 4 NC2, 5 NC3, 6 NC4, 7 nSS (in), 8 SO (out), 9 nWP (in), 10 nGND, 11 NC5, 12 NC6, 13 NC7, 14 NC8, 15 SI (in), 16 SCK (in)

## SW_PUSH
designator SW?
SDTSourceLibName: C:\WIND95\TEMP\6200.LIB
footprint SW4
pins: 1, 2, 3, 4 6

## SY8003_0
designator U?, comment SY8003
pins: 1 FB, 2 PG, 3 IN, 4 PGND, 5 SGND, 5 NC, 6 LX, 7 EN

## SY8003_1
designator U?, comment SY8003
pins: 1 FB, 2 PG, 3 IN, 4 PGND, 5 NC, 6 LX, 7 EN, 8 SGND

## SY8003_2
designator U?, comment SY8003
pins: 1 FB, 2 PG, 3 IN, 4 PGND2, 5 NC, 6 LX, 7 EN, 8 SGND, 9 PGND1
text: PGND

## SY8003_3
designator U?, comment SY8003
pins: 1 FB, 2 PG, 3 IN, 4 PGND1, 5 NC, 6 LX, 7 EN, 8 SGND, 9 PGND2
text: PGND

## SY8088
designator U?, comment SY8008B
pins: 1 EN, 2 GND, 3 LX, 4 IN, 5 FB

## T_POINT_R
designator TP?
pins: 1 TP

## TEMPOBJ_0
designator U?
pins: 1 GND, 2 Vout, 3 Vin

## TEST POINT SURFACE
designator TPS?
footprint TP_SMD
pins: 1 TP

## TitleBlock0-AW
designator *  Page Size: A  Page Number: 1  (graphical)
Page Create Date: March  8, 1995; RevCode: ?; Page Count: 1
text: Allwinner Technology Co.,Ltd; Design Name; Size; Page Name; Rev; Date:; Sheet; of

## TM1616_0
designator U?, comment TM1616
pins: 1 DIN, 2 CLK, 3 STB, 4 VDD, 5 SEG1, 6 SEG2, 7 SEG3, 8 SEG4, 9 SEG5, 10 SEG6, 11 SEG7, 12 GRID4, 13 GRID3, 14 GND, 15 GRID2, 16 GRID1

## uP0107
designator U?
footprint SOT23-5
pins: 1 EN, 2 GND, 3 VIN, 4 VOUT, 5 FB

## USB_A_1
designator P?
footprint USB_A_1
pins: 1 VBUS, 2 D-, 3 D+, 4 GND, 5 Shield1, 6 Shield2, 7 Shield3, 8 Shield4

## VIDEO-JACK-1_0
designator U?, comment JACK4IN1  (value not drawn)
pins: 1, 2, 3, 4

## WCM-2012HS-900T_0
designator U?, comment WCM-2012HS-900T
pins: 1, 2, 3, 4